# Altium schematic symbol library BaseLib.SchLib: 60 symbols
Pins are listed as number, name and electrical type; pins without a type are passive.

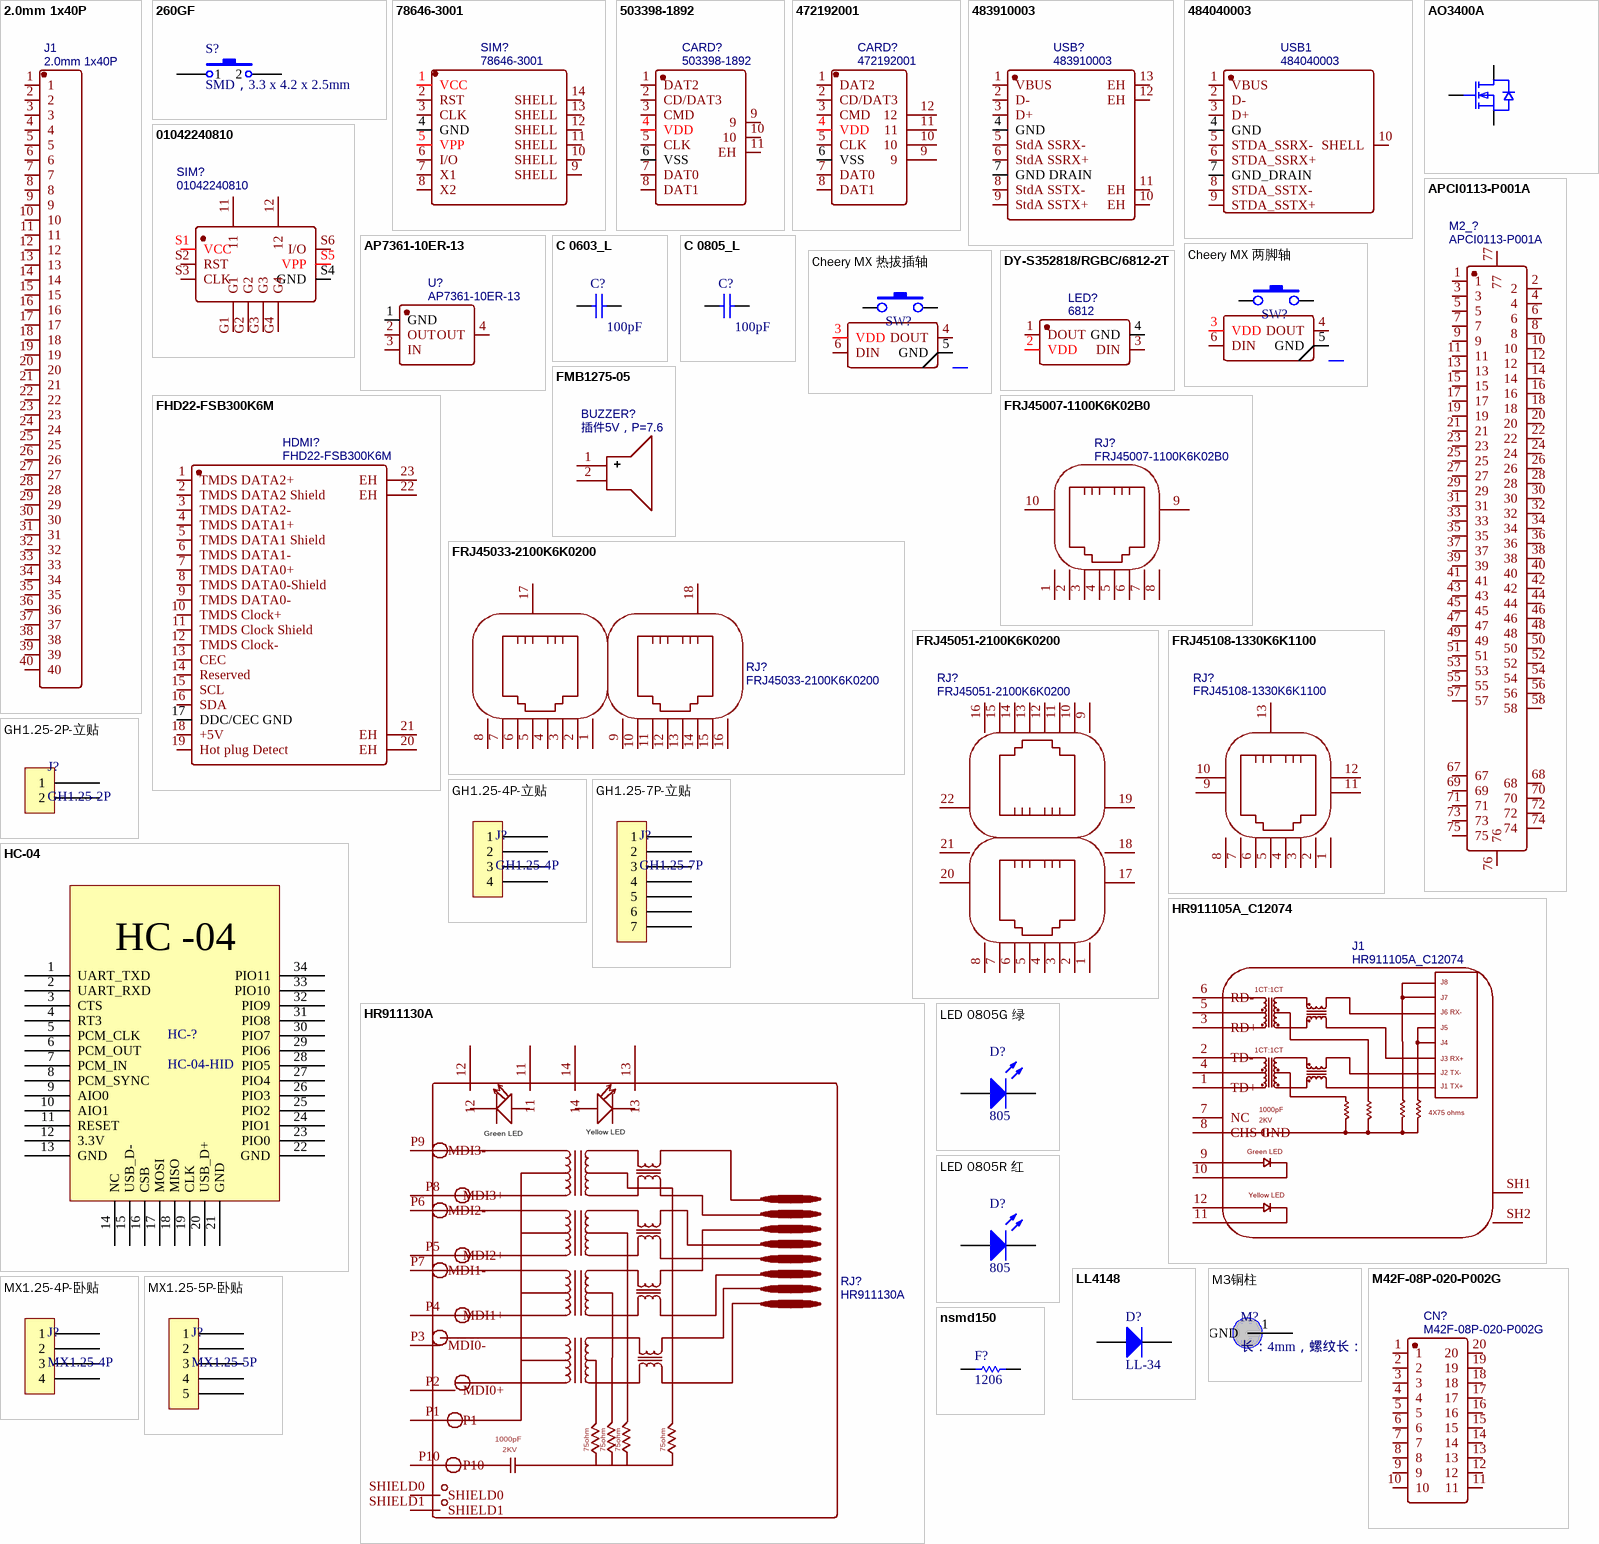
[diagram p0: symbols 2.0mm 1x40P to nsmd150]

## 2.0mm 1x40P
designator J1
排针（Pin Jack）; BOM_Manufacturer: BOOMELE; BOM_Manufacturer Part: 2.0mm 1x40P 单排直针; spicePre: X; BOM_Supplier: LCSC; BOM_Supplier Part: C3411; BOM_JLCPCB Part Class: Extended Part; spiceSymbolName: 2.0mm 1x40P
footprint HDR-TH_40P-P2.00-V-M-1
pins: 1, 2, 3, 4, 5, 6, 7, 8, 9, 10, 11, 12, 13, 14, 15, 16, 17, 18, 19, 20, 21, 22, 23, 24, 25, 26, 27, 28, 29, 30, 31, 32, 33, 34, 35, 36, 37, 38, 39, 40

## 260GF
designator S?, comment SMD，3.3 x 4.2 x 2.5mm
轻触开关（Touch Switch）; Published: 24-Mar-1999; LatestRevisionDate: 17-Jul-2002; LatestRevisionNote: Re-released for DXP Platform.; PackageReference: SPST-2; Publisher: Altium Limited; PackageDescription: Switch; 2 Leads
footprint SMD-3.2*4.2
pins: 1, 2

## 78646-3001
designator SIM?
拔插式MicroSIM卡卡座（MicroSIM Jack）; BOM_Manufacturer: MOLEX; Contributor: LCSC; BOM_Supplier: LCSC; BOM_Supplier Part: C194938; BOM_Manufacturer Part: 78646-3001; BOM_JLCPCB Part Class: Extended Part; spicePre: C; spiceSymbolName: 78646-3001
footprint SD-SMD_78646-3001
pins: 1 VCC, 2 RST, 3 CLK, 4 GND, 5 VPP, 6 I/O, 7 X1, 8 X2, 9 SHELL, 10 SHELL, 11 SHELL, 12 SHELL, 13 SHELL, 14 SHELL

## 503398-1892
designator CARD?
弹出式SD卡插座（SD Jack）; BOM_Manufacturer: MOLEX; Contributor: LCSC; BOM_Supplier: LCSC; BOM_Supplier Part: C428492; BOM_Manufacturer Part: 503398-1892; BOM_JLCPCB Part Class: Extended Part; spicePre: C; spiceSymbolName: 503398-1892
footprint TF-SMD_503398-1892
pins: 1 DAT2, 2 CD/DAT3, 3 CMD, 4 VDD, 5 CLK, 6 VSS, 7 DAT0, 8 DAT1, 9, 10, 11 EH

## 472192001
designator CARD?
翻盖式SD卡插座（SD Jack）; BOM_Manufacturer: MOLEX; Contributor: LCSC; BOM_Supplier: LCSC; BOM_Supplier Part: C164170; BOM_Manufacturer Part: 472192001; BOM_JLCPCB Part Class: Extended Part; spicePre: C; spiceSymbolName: 472192001
footprint TF-SMD_472192001
pins: 1 DAT2, 2 CD/DAT3, 3 CMD, 4 VDD, 5 CLK, 6 VSS, 7 DAT0, 8 DAT1, 9, 10, 11, 12

## 483910003
designator USB?
卧式通用通信总线接口（USB），Type-A; BOM_Manufacturer: MOLEX; Contributor: LCSC; BOM_Supplier: LCSC; BOM_Supplier Part: C127375; BOM_Manufacturer Part: 483910003; BOM_JLCPCB Part Class: Extended Part; spicePre: U; spiceSymbolName: 483910003
footprint USB-A-TH_4839100031
pins: 1 VBUS, 2 D-, 3 D+, 4 GND, 5 StdA SSRX-, 6 StdA SSRX+, 7 GND DRAIN, 8 StdA SSTX-, 9 StdA SSTX+, 10 EH, 11 EH, 12 EH, 13 EH

## 484040003
designator USB1
立式通用通信总线接口（USB），Type-A; BOM_Manufacturer: MOLEX; Contributor: LCSC; BOM_Supplier: LCSC; BOM_Supplier Part: C127377; BOM_Manufacturer Part: 484040003; BOM_JLCPCB Part Class: Extended Part; spicePre: U; spiceSymbolName: 484040003
footprint USB-TH_484040003
pins: 1 VBUS, 2 D-, 3 D+, 4 GND, 5 STDA_SSRX-, 6 STDA_SSRX+, 7 GND_DRAIN, 8 STDA_SSTX-, 9 STDA_SSTX+, 10 SHELL

## 01042240810
designator SIM?
拔插式NanoSIM卡卡座（NanoSIM Jack）; BOM_Manufacturer: MOLEX; Contributor: LCSC; BOM_Supplier: LCSC; BOM_Manufacturer Part: 01042240810; BOM_Supplier Part: C127338; BOM_JLCPCB Part Class: Extended Part; spicePre: C; spiceSymbolName: 01042240810
footprint SD-SMD_SD-104244-001
pins: 11, 12, G1, G2, G3, G4, S1 VCC, S2 RST, S3 CLK, S4 GND, S5 VPP, S6 I/O

## AO3400A
designator Q?, comment SOT-23 30V 5.2A
场效应管（MOSFET）; Manufacturer: Nexperia(安世); Symbol: 2N7002,215; Add into BOM: yes; Type: N沟道; Drain Source Voltage (Vdss): 60V; Continuous Drain Current (Id): 300mA; Power Dissipation (Pd): 830mW; Drain Source On Resistance (RDS(on)@Vgs,Id): 5Ω@10V,500mA; Gate Threshold Voltage (Vgs(th)@Id): 2.5V@250A; Device: 2N7002,215; LCSC Part Name: N沟道 60V 300mA; Supplier Part: C65189; Manufacturer Part: 2N7002,215; Supplier Footprint: SOT-23(SOT-23-3); JLCPCB Part Class: Extended Part; Datasheet: https://atta.szlcsc.com/upload/public/pdf/source/20170103/1483439882638.pdf; Supplier: LCSC; Convert to PCB: yes
footprint AO3400A (SOT-23_L2.9-W1.3-P1.90-LS2.4-BR)
pins: 1 G, 2 S, 3 D

## AP7361-10ER-13
designator U?
线性稳压器（LDO）; BOM_Manufacturer: Diodes Incorporated; Contributor: LCSC; BOM_Supplier: LCSC; BOM_Supplier Part: C460389; BOM_Manufacturer Part: AP7361-10ER-13; BOM_JLCPCB Part Class: Extended Part; spicePre: U; spiceSymbolName: AP7361-10ER-13
footprint SOT-223_L6.5-W3.5-P2.30-LS7.0-BR
pins: 1 GND, 2 OUT, 3 IN, 4 OUT

## APCI0113-P001A
designator M2_?
M.2通用接口（M.2 Jack）; BOM_Manufacturer: LOTES; Contributor: LCSC; BOM_Supplier: LCSC; BOM_Supplier Part: C841669; BOM_Manufacturer Part: APCI0113-P001A; BOM_JLCPCB Part Class: Extended Part; spicePre: C; spiceSymbolName: APCI0113-P001A
footprint CONN-SMD_APCI0113-P001A
pins: 1, 2, 3, 4, 5, 6, 7, 8, 9, 10, 11, 12, 13, 14, 15, 16, 17, 18, 19, 20, 21, 22, 23, 24, 25, 26, 27, 28, 29, 30, 31, 32, 33, 34, 35, 36, 37, 38, 39, 40, 41, 42, 43, 44, 45, 46, 47, 48, 49, 50, 51, 52, 53, 54, 55, 56, 57, 58, 67, 68, 69, 70, 71, 72, 73, 74, 75, 76, 77

## C 0603_L
designator C?  value 100pF
贴片电容器（Capacitor）; Published: 8-Jun-2000; LatestRevisionDate: 17-Jul-2002; LatestRevisionNote: Re-released for DXP Platform.; PackageReference: RAD-0.3; Publisher: Altium Limited; PackageDescription: Radial Cap, Thru-Hole; 2 Leads; 0.3 in Pin Spacing
footprint C 0603_L (无极性贴片电容                                       淘宝ID:黄晶宝石)
pins: 1, 2

## C 0805_L
designator C?  value 100pF
贴片电容器（Capacitor）; Published: 8-Jun-2000; LatestRevisionDate: 17-Jul-2002; LatestRevisionNote: Re-released for DXP Platform.; PackageReference: RAD-0.3; Publisher: Altium Limited; PackageDescription: Radial Cap, Thru-Hole; 2 Leads; 0.3 in Pin Spacing
footprint C 0805_L (无极性贴片电容                                        淘宝ID:黄晶宝石)
pins: 1, 2

## Cheery MX 两脚轴
designator SW?
机械键盘轴（Cheery MX）
footprint MX_SW-1 (with Fixation pins  1-Pole w/Diode)
pins: 1, 2, 3 VDD, 4 DOUT, 5 GND, 6 DIN

## Cheery MX 热拔插轴
designator SW?
机械键盘轴（Cheery MX）
footprint MX_SW-HOTPLUG (with Fixation pins  1-Pole w/Diode)
pins: 1, 2, 3 VDD, 4 DOUT, 5 GND, 6 DIN

## DY-S352818/RGBC/6812-2T
designator LED?, comment 6812
贴片发光二极管（LED）; BOM_Manufacturer: TONYU; BOM_Manufacturer Part: DY-S352818/RGBC/6812-2T; Contributor: LCSC; BOM_Supplier: LCSC; BOM_Supplier Part: C524051; BOM_JLCPCB Part Class: Extended Part; spicePre: L; spiceSymbolName: DY-S352818/RGBC/6812-2T
footprint LED3528
pins: 1 DOUT, 2 VDD, 3 DIN, 4 GND

## FHD22-FSB300K6M
designator HDMI?
数字高清显示接口（HDMI）; BOM_Manufacturer: TXGA(特思嘉); Contributor: LCSC; BOM_Supplier: LCSC; BOM_Supplier Part: C2833984; BOM_Manufacturer Part: FHD22-FSB300K6M; spicePre: C; spiceSymbolName: FHD22-FSB300K6M
footprint HDMI-SMD_FHD22-FSB300K6M
pins: 1 TMDS DATA2+, 2 TMDS DATA2 Shield, 3 TMDS DATA2-, 4 TMDS DATA1+, 5 TMDS DATA1 Shield, 6 TMDS DATA1-, 7 TMDS DATA0+, 8 TMDS DATA0-Shield, 9 TMDS DATA0-, 10 TMDS Clock+, 11 TMDS Clock Shield, 12 TMDS Clock-, 13 CEC, 14 Reserved, 15 SCL, 16 SDA, 17 DDC/CEC GND, 18 +5V, 19 Hot plug Detect, 20 EH, 21 EH, 22 EH, 23 EH

## FMB1275-05
designator BUZZER?, comment 插件5V，P=7.6
蜂鸣器（Buzzer）; BOM_Manufacturer: FUET; BOM_Manufacturer Part: FMB1275-05; Contributor: LCSC; Frequency: 2300Hz; BOM_Supplier: LCSC; BOM_Supplier Part: C482357; BOM_JLCPCB Part Class: Extended Part; spicePre: B; spiceSymbolName: FMB1275-05
footprint Speaker
pins: 1 +, 2 -

## FRJ45007-1100K6K02B0
designator RJ?
单插以太网接口（RJ45）; BOM_Manufacturer: TXGA(特思嘉); Contributor: LCSC; BOM_Supplier: LCSC; BOM_Supplier Part: C2834418; BOM_Manufacturer Part: FRJ45007-1100K6K02B0; BOM_JLCPCB Part Class: Extended Part; spicePre: R; spiceSymbolName: FRJ45007-1100K6K02B0
footprint RJ45-TH_FRJ45007-1100K6K02B0
pins: 1, 2, 3, 4, 5, 6, 7, 8, 9 SHELL, 10 SHELL

## FRJ45033-2100K6K0200
designator RJ?
卧式双插以太网接口（RJ45）; BOM_Manufacturer: TXGA(特思嘉); Contributor: LCSC; BOM_Supplier: LCSC; BOM_Supplier Part: C2834380; BOM_Manufacturer Part: FRJ45033-2100K6K0200; BOM_JLCPCB Part Class: Extended Part; spicePre: R; spiceSymbolName: FRJ45033-2100K6K0200
footprint RJ45-TH_FRJ45033-2100K6K0200
pins: 1, 2, 3, 4, 5, 6, 7, 8, 9, 10, 11, 12, 13, 14, 15, 16, 17 SHELL, 18 SHELL

## FRJ45051-2100K6K0200
designator RJ?
立式双插以太网接口（RJ45）; BOM_Manufacturer: TXGA(特思嘉); Contributor: LCSC; BOM_Supplier: LCSC; BOM_Supplier Part: C2834296; BOM_Manufacturer Part: FRJ45051-2100K6K0200; spicePre: R; spiceSymbolName: FRJ45051-2100K6K0200
footprint RJ45-TH_FRJ45051-2100K6K0200
pins: 1, 2, 3, 4, 5, 6, 7, 8, 9, 10, 11, 12, 13, 14, 15, 16, 17 SHELL, 18 SHELL, 19 SHELL, 20 SHELL, 21 SHELL, 22 SHELL

## FRJ45108-1330K6K1100
designator RJ?
单插带灯以太网接口（RJ45）; BOM_Manufacturer: TXGA(特思嘉); Contributor: LCSC; BOM_Supplier: LCSC; BOM_Supplier Part: C2833816; BOM_Manufacturer Part: FRJ45108-1330K6K1100; spicePre: R; spiceSymbolName: FRJ45108-1330K6K1100
footprint RJ45-TH_FRJ45108-1330K6K1100
pins: 1, 2, 3, 4, 5, 6, 7, 8, 9 LED-L+, 10 LED-L-, 11 LED-R+, 12 LED-R-, 13 SHELL

## GH1.25-2P-立贴
designator J?, comment GH1.25-2P
插座（Jack）
footprint GH1.25-立贴-2P
pins: 1, 2

## GH1.25-4P-立贴
designator J?, comment GH1.25-4P
插座（Jack）
footprint GH1.25-立贴-4P
pins: 1, 2, 3, 4

## GH1.25-7P-立贴
designator J?, comment GH1.25-7P
插座（Jack）
footprint GH1.25-立贴-7P
pins: 1, 2, 3, 4, 5, 6, 7

## HC-04
designator HC-?, comment HC-04-HID
蓝牙HC-04最小主板（Bluetooth）
footprint HC-04 (串口蓝牙模块)
pins: 1 UART_TXD, 2 UART_RXD, 3 CTS, 4 RT3, 5 PCM_CLK, 6 PCM_OUT, 7 PCM_IN, 8 PCM_SYNC, 9 AIO0, 10 AIO1, 11 RESET, 12 3.3V, 13 GND, 14 NC, 15 USB_D-, 16 CSB, 17 MOSI, 18 MISO, 19 CLK, 20 USB_D+, 21 GND, 22 GND, 23 PIO0, 24 PIO1, 25 PIO2, 26 PIO3, 27 PIO4, 28 PIO5, 29 PIO6, 30 PIO7, 31 PIO8, 32 PIO9, 33 PIO10, 34 PIO11
text: HC -04

## HR911105A_C12074
designator J1
单插带灯以太网接口（RJ45）; BOM_Manufacturer: HANRUN; BOM_Supplier: LCSC; BOM_Manufacturer Part: HR911105A; BOM_Supplier Part: C12074; BOM_JLCPCB Part Class: Extended Part; spicePre: J; spiceSymbolName: HR911105A_C12074
footprint RJ45-TH_HR911105A
pins: 1 TD+, 2 TD-, 3 RD+, 4, 5, 6 RD-, 7 NC, 8 CHS GND, 9, 10, 11, 12, SH1, SH2
text: J8; 1CT:1CT; J7; J6 RX-; J5; J4; J3 RX+; J2 TX-; J1 TX+; 1000pF; 4X75 ohms; 2KV; Green LED; Yellow LED

## HR911130A
designator RJ?
单插带灯以太网接口（RJ45）; BOM_Manufacturer: HANRUN; BOM_Supplier: LCSC; BOM_Manufacturer Part: HR911130A; BOM_Supplier Part: C54408; BOM_JLCPCB Part Class: Extended Part; spicePre: R; spiceSymbolName: HR911130A
footprint RJ45-TH_HR911130A
pins: 11, 12, 13, 14, P1, P2 MDI0+, P3 MDI0-, P4 MDI1+, P5 MDI2+, P6 MDI2-, P7 MDI1-, P8 MDI3+, P9 MDI3-, P10, SHIELD0, SHIELD1
text: Yellow LED; Green LED; J8; J7; J6 RX-; J5; J4; J3 RX+; J2 TX-; J1 TX+; 1000pF; 75ohm; 2KV

## LED 0805G 绿
designator D?, comment 805
贴片发光二极管（LED）; Published: 8-Jun-2000; LatestRevisionDate: 08-Jul-2005; LatestRevisionNote: Mech Layer 1 removed.; PackageReference: LED-0; Publisher: Altium Limited; PackageDescription: LED; 2 Leads
footprint LED 0805G (绿色0805LED                              淘宝ID:黄晶宝石)
pins: 1 A, 2 K

## LED 0805R 红
designator D?, comment 805
贴片发光二极管（LED）; Published: 8-Jun-2000; LatestRevisionDate: 08-Jul-2005; LatestRevisionNote: Mech Layer 1 removed.; PackageReference: LED-0; Publisher: Altium Limited; PackageDescription: LED; 2 Leads
footprint LED 0805R (红色0805LED                                       淘宝ID:黄晶宝石)
pins: 1 A, 2 K

## LL4148
designator D?, comment LL-34
开关二极管（Switching diode）; Published: 8-Jun-2000; LatestRevisionDate: 17-Jul-2002; LatestRevisionNote: Re-released for DXP Platform.; PackageVersion: Sep-1996; PackageReference: SMC; Publisher: Altium Limited; PackageDescription: DO-214-AB/SMC; 2 C-Bend Leads; Body 7.9 x 5.9 mm, inc. leads (LxW); Code_JEDEC: DO-214-AB
footprint LL-34_L3.7-W1.6-RD
pins: 1 A, 2 K

## M3铜柱
designator M?, comment 长：4mm，螺纹长：6mm
M3铜柱，长：4mm，螺纹长：6mm
footprint M3x4+6_L (M3铜柱，长：4mm，螺纹长：6mm)
pins: 1 GND

## M42F-08P-020-P002G
designator CN?
SFP+万兆光模块口（SFP+ Jack）; BOM_Manufacturer: UMAX; Contributor: LCSC; BOM_Supplier: LCSC; BOM_Supplier Part: C404107; BOM_Manufacturer Part: M42F-08P-020-P002G; BOM_JLCPCB Part Class: Extended Part; spicePre: C; spiceSymbolName: M42F-08P-020-P002G
footprint CONN-SMD_20P-P0.80-H_M42F-08P-020-P002G
pins: 1, 2, 3, 4, 5, 6, 7, 8, 9, 10, 11, 12, 13, 14, 15, 16, 17, 18, 19, 20

## MX1.25-4P-卧贴
designator J?, comment MX1.25-4P
插座（Jack）
footprint MX 1.25-WS-4P (长：10.15mm，宽：4.2mm，高：3.4mm)
pins: 1, 2, 3, 4

## MX1.25-5P-卧贴
designator J?, comment MX1.25-5P
插座（Jack）
footprint MX 1.25-WS-5P (长：11.4mm，宽：4.2mm，高：3.4mm)
pins: 1, 2, 3, 4, 5

## nsmd150
designator F?, comment 1206
自恢复保险丝（Fuse）; Published: 8-Jun-2000; LatestRevisionDate: 17-Jul-2002; LatestRevisionNote: Re-released for DXP Platform.; PackageReference: AXIAL-0.3; Publisher: Altium Limited; PackageDescription: Axial Device, Thru-Hole; 2 Leads; 0.3 in Pin Spacing
footprint FU 1206 (贴片保险丝)
pins: 1, 2

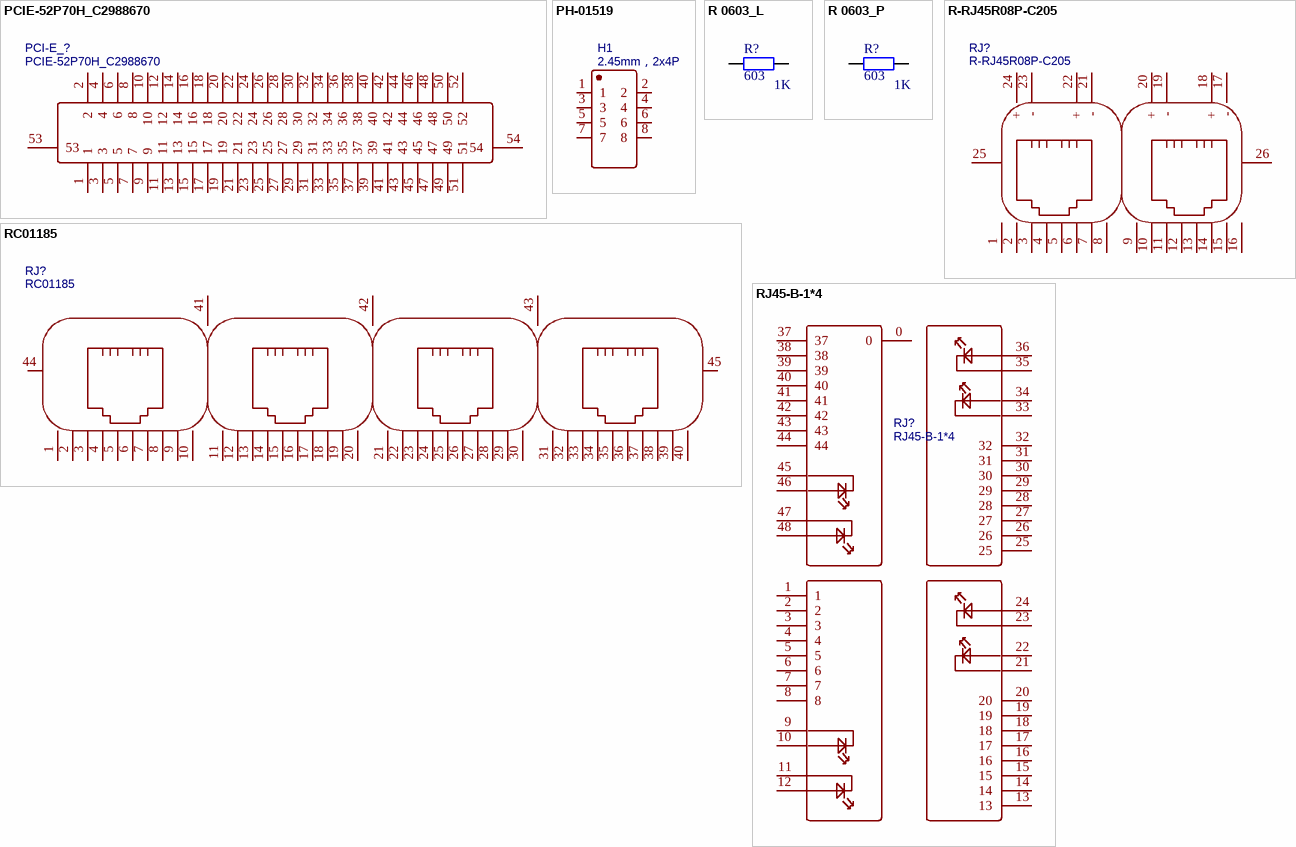
[diagram p1: symbols PCIE-52P70H_C2988670 to RJ45-B-1*4]

## PCIE-52P70H_C2988670
designator PCI-E_?
PCI-E通用接口（PCI-E Jack）; BOM_Manufacturer: SOFNG(硕方); Contributor: LCSC; BOM_Supplier: LCSC; BOM_Supplier Part: C2988670; BOM_Manufacturer Part: PCIE-52P70H; link: https://atta.szlcsc.comnull; spicePre: C; spiceSymbolName: PCIE-52P70H_C2988670
footprint PCIE-SMD_52P-P0.80_PCIE-52PXXH
pins: 1, 2, 3, 4, 5, 6, 7, 8, 9, 10, 11, 12, 13, 14, 15, 16, 17, 18, 19, 20, 21, 22, 23, 24, 25, 26, 27, 28, 29, 30, 31, 32, 33, 34, 35, 36, 37, 38, 39, 40, 41, 42, 43, 44, 45, 46, 47, 48, 49, 50, 51, 52, 53, 54

## PH-01519
designator H1, comment 2.45mm，2x4P
排针（Pin Jack）; BOM_Manufacturer: Liansheng(连盛); BOM_Manufacturer Part: PH-01519; Contributor: LCSC; BOM_Supplier: LCSC; BOM_Supplier Part: C2827500; BOM_JLCPCB Part Class: Extended Part; spicePre: H; spiceSymbolName: PH-01519
footprint HDR-TH_8P-P2.00-V-M-R2-C4-S2.00-2
pins: 1, 2, 3, 4, 5, 6, 7, 8

## R 0603_L
designator R?, comment 603  value 1K
贴片电阻（Resistor）; Published: 8-Jun-2000; LatestRevisionDate: 17-Jul-2002; LatestRevisionNote: Re-released for DXP Platform.; PackageReference: AXIAL-0.4; Publisher: Altium Limited; PackageDescription: Axial Device, Thru-Hole; 2 Leads; 0.4 in Pin Spacing
footprint R 0603_L (1/10W贴片电阻                 淘宝ID:黄晶宝石)
pins: 1, 2

## R 0603_P
designator R?, comment 603  value 1K
贴片电阻（Resistor）; Published: 8-Jun-2000; LatestRevisionDate: 17-Jul-2002; LatestRevisionNote: Re-released for DXP Platform.; PackageReference: AXIAL-0.4; Publisher: Altium Limited; PackageDescription: Axial Device, Thru-Hole; 2 Leads; 0.4 in Pin Spacing
footprint 0603P
pins: 1, 2

## R-RJ45R08P-C205
designator RJ?
卧式带灯双插以太网接口（RJ45）; BOM_Manufacturer: Ckmtw(灿科盟); Contributor: LCSC; BOM_Supplier: LCSC; BOM_Supplier Part: C2902697; BOM_Manufacturer Part: R-RJ45R08P-C205; BOM_JLCPCB Part Class: Extended Part; spicePre: R; spiceSymbolName: R-RJ45R08P-C205
footprint RJ45-TH_CKMTW_R-RJ45R08P-C205
footprint RJ45-TH_CKMTW_R-RJ45R08P-C205
pins: 1, 2, 3, 4, 5, 6, 7, 8, 9, 10, 11, 12, 13, 14, 15, 16, 17 -, 18 +, 19 -, 20 +, 21 -, 22 +, 23 -, 24 +, 25, 26

## RC01185
designator RJ?
卧式四插以太网接口（RJ45）; BOM_Manufacturer: RCH(瑞川); Contributor: LCSC; BOM_Supplier: LCSC; BOM_Supplier Part: C708618; BOM_Manufacturer Part: RC01185; BOM_JLCPCB Part Class: Extended Part; spicePre: R; spiceSymbolName: RC01185
footprint RJ45-TH_RCH-5621-14
pins: 1, 2, 3, 4, 5, 6, 7, 8, 9, 10, 11, 12, 13, 14, 15, 16, 17, 18, 19, 20, 21, 22, 23, 24, 25, 26, 27, 28, 29, 30, 31, 32, 33, 34, 35, 36, 37, 38, 39, 40, 41 SHELL, 42 SHELL, 43 SHELL, 44 SHELL, 45 SHELL

## RJ45-B-1*4
designator RJ?
卧式带灯四插以太网接口（RJ45）; BOM_Manufacturer: BOOMELE; subpart_no: 4; BOM_Supplier Part: C138390; BOM_Supplier: LCSC; BOM_Manufacturer Part: RJ45-B-1*4; BOM_JLCPCB Part Class: Extended Part; spicePre: R; spiceSymbolName: RJ45-B-1*4
footprint RJ45-TH_B-1-4
pins: 0, 1, 2, 3, 4, 5, 6, 7, 8, 9, 10, 11, 12, 13, 14, 15, 16, 17, 18, 19, 20, 21, 22, 23, 24, 25, 26, 27, 28, 29, 30, 31, 32, 33, 34, 35, 36, 37, 38, 39, 40, 41, 42, 43, 44, 45, 46, 47, 48

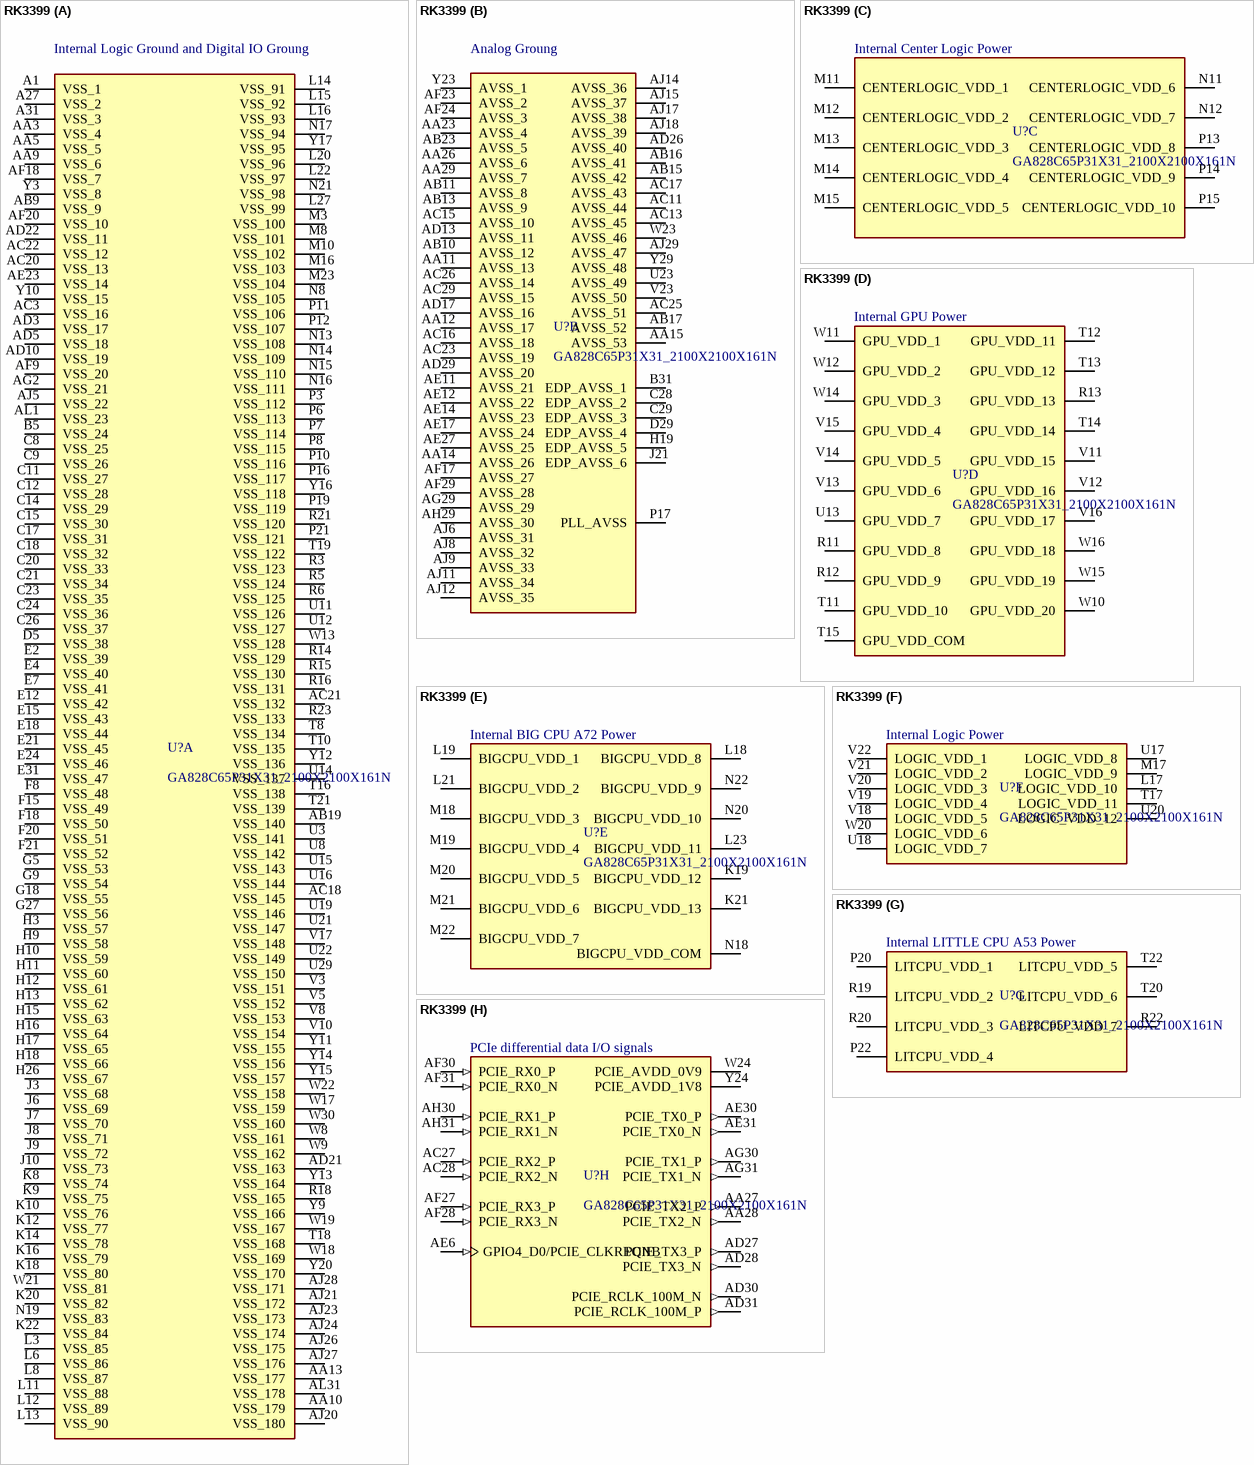
[diagram p2: symbol RK3399]

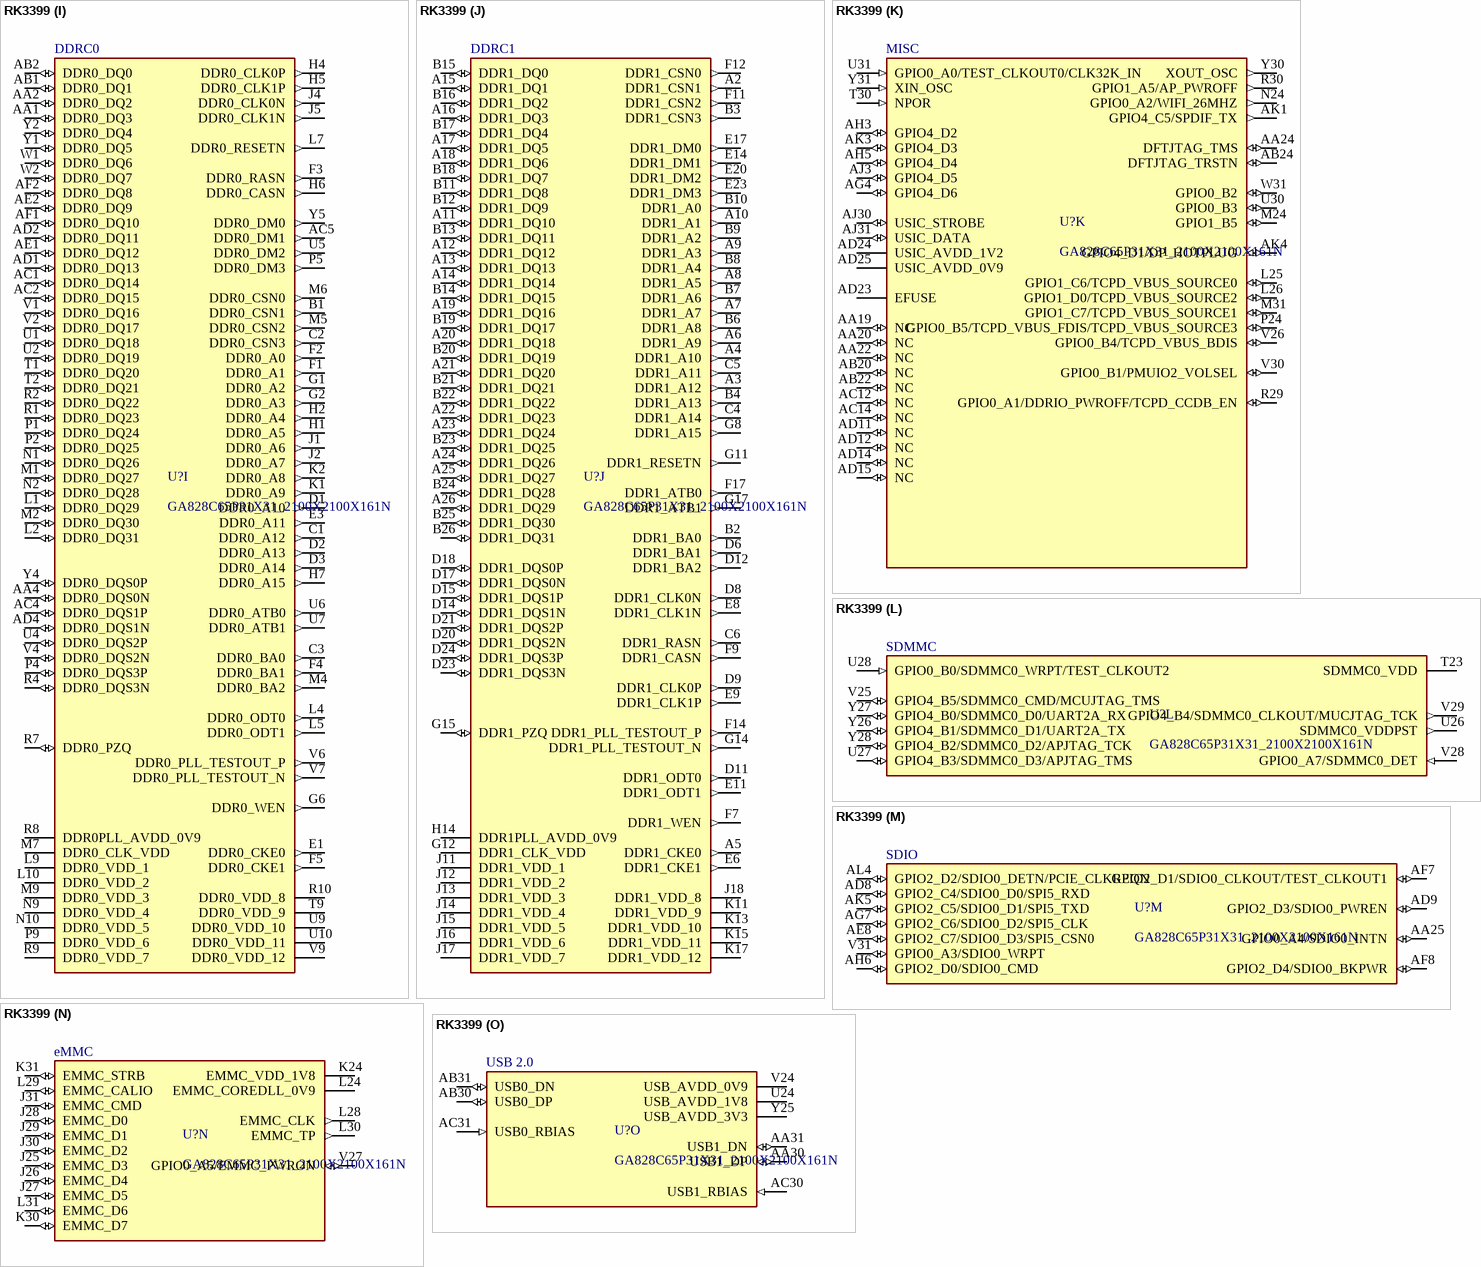
[diagram p3: symbol RK3399]

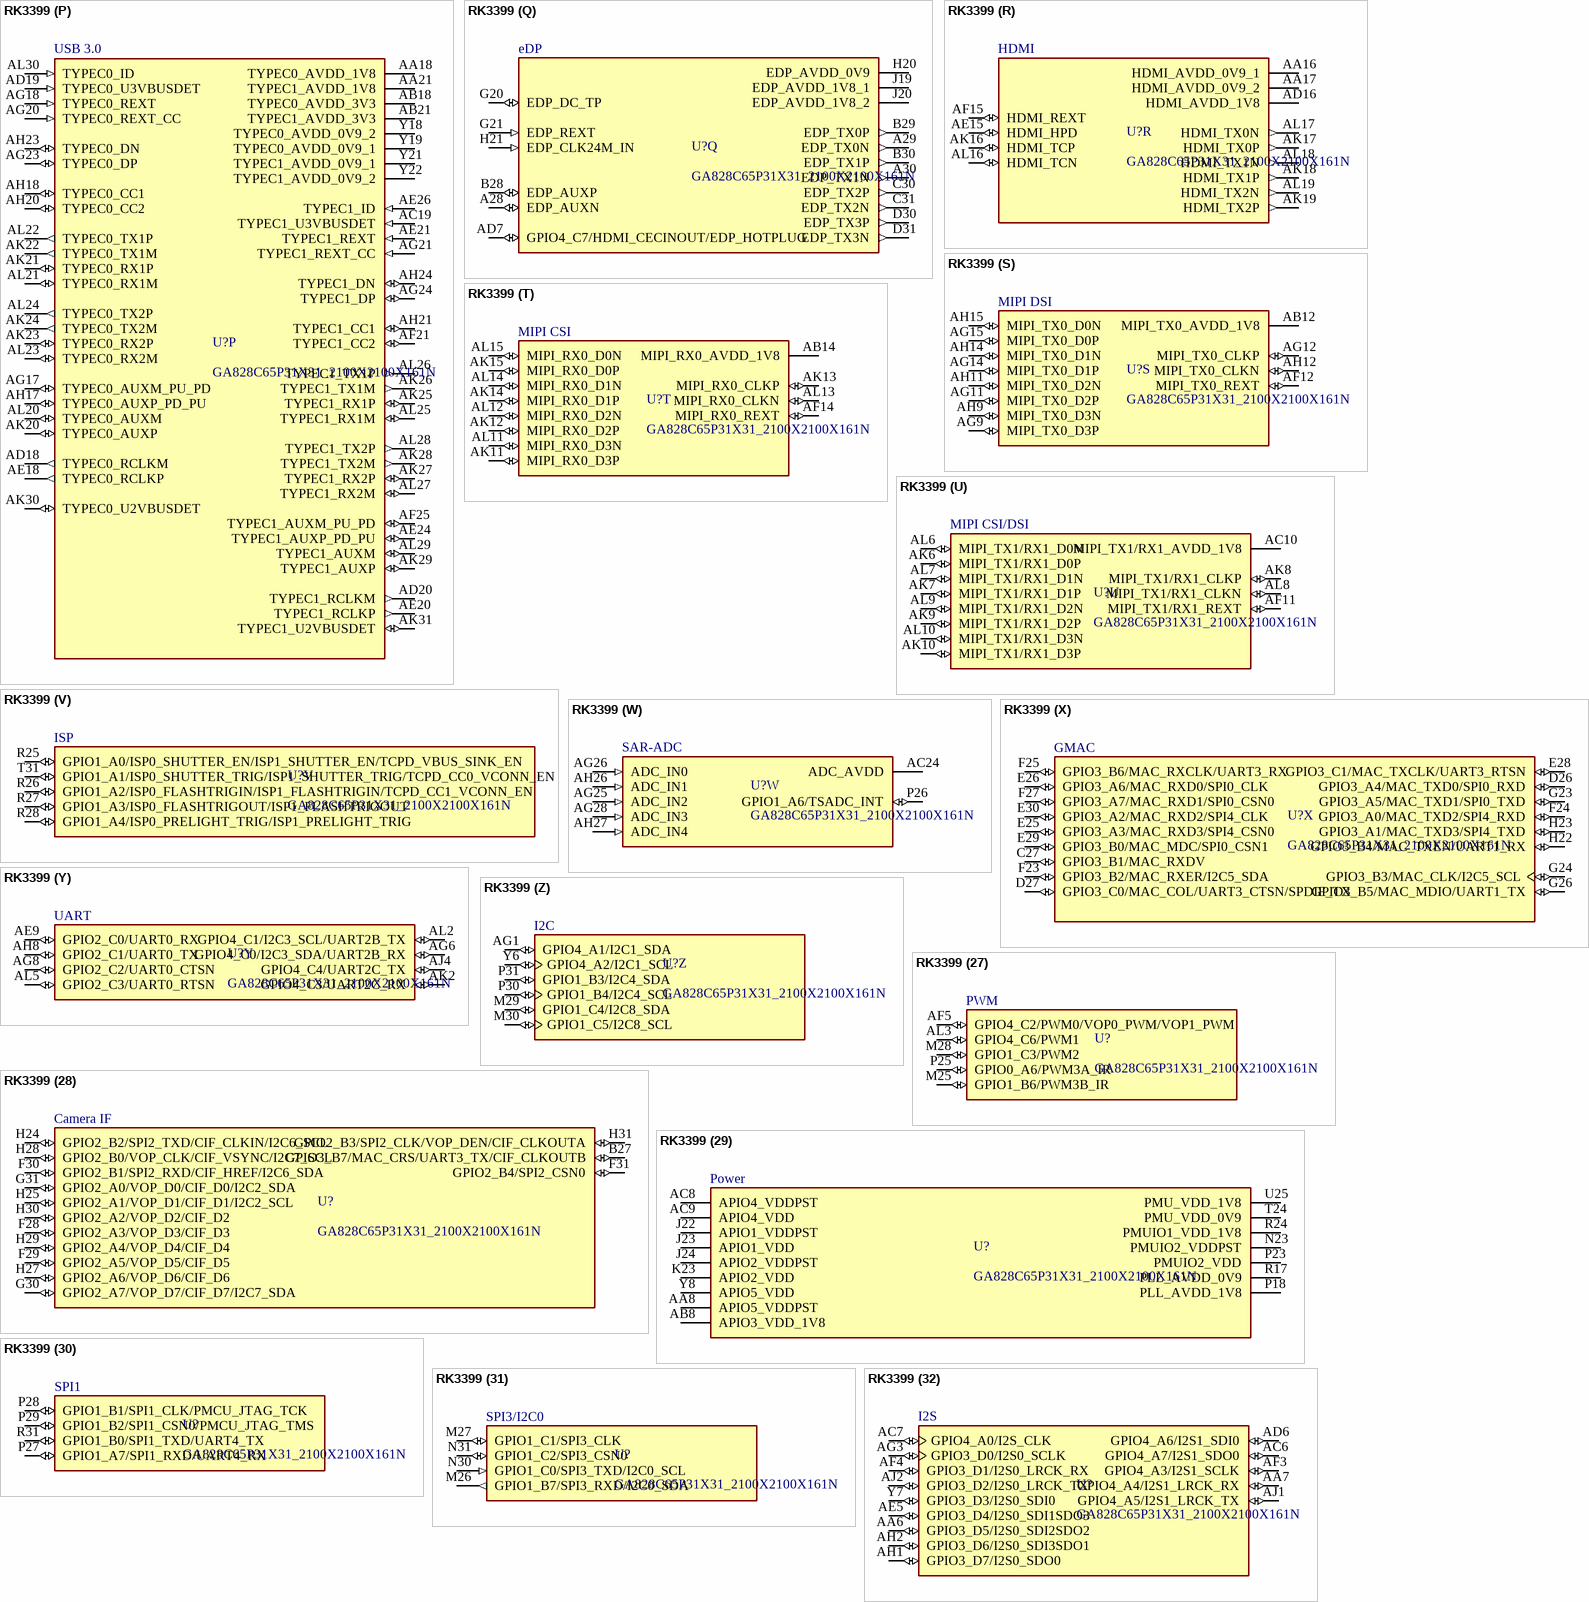
[diagram p4: symbol RK3399]

## RK3399
designator U?, comment GA828C65P31X31_2100X2100X161N
芯片系统（SOC），RK3399 ROCK Pi 4 Model A 2GB - ARMÂ® CortexÂ®-A53, CortexÂ®-A72 MPU Embedded Evaluation Board; MP: RK3399; MF: Rockchip; SnapEDA_Link: https://www.snapeda.com/parts/RK3399/Fuzhou%20Rockchip%20Electronics%20Co/view-part/1600402/?ref=snap; Availability: Unavailable; Value: *; Price: None; Package: Seeed Technology
footprint BGA828C65P31X31_2100X2100X161N
part A pins: A1 VSS_1 (power), A27 VSS_2 (power), A31 VSS_3 (power), AA3 VSS_4 (power), AA5 VSS_5 (power), AA9 VSS_6 (power), AA10 VSS_179 (power), AA13 VSS_177 (power), AB9 VSS_9 (power), AB19 VSS_140 (power), AC3 VSS_16 (power), AC18 VSS_145 (power), AC20 VSS_13 (power), AC21 VSS_132 (power), AC22 VSS_12 (power), AD3 VSS_17 (power), AD5 VSS_18 (power), AD10 VSS_19 (power), AD21 VSS_163 (power), AD22 VSS_11 (power), AE23 VSS_14 (power), AF9 VSS_20 (power), AF18 VSS_7 (power), AF20 VSS_10 (power), AG2 VSS_21 (power), AJ5 VSS_22 (power), AJ20 VSS_180 (power), AJ21 VSS_172 (power), AJ23 VSS_173 (power), AJ24 VSS_174 (power), AJ26 VSS_175 (power), AJ27 VSS_176 (power), AJ28 VSS_171 (power), AL1 VSS_23 (power), AL31 VSS_178 (power), B5 VSS_24 (power), C8 VSS_25 (power), C9 VSS_26 (power), C11 VSS_27 (power), C12 VSS_28 (power), C14 VSS_29 (power), C15 VSS_30 (power), C17 VSS_31 (power), C18 VSS_32 (power), C20 VSS_33 (power), C21 VSS_34 (power), C23 VSS_35 (power), C24 VSS_36 (power), C26 VSS_37 (power), D5 VSS_38 (power), E2 VSS_39 (power), E4 VSS_40 (power), E7 VSS_41 (power), E12 VSS_42 (power), E15 VSS_43 (power), E18 VSS_44 (power), E21 VSS_45 (power), E24 VSS_46 (power), E31 VSS_47 (power), F8 VSS_48 (power), F15 VSS_49 (power), F18 VSS_50 (power), F20 VSS_51 (power), F21 VSS_52 (power), G5 VSS_53 (power), G9 VSS_54 (power), G18 VSS_55 (power), G27 VSS_56 (power), H3 VSS_57 (power), H9 VSS_58 (power), H10 VSS_59 (power), H11 VSS_60 (power), H12 VSS_61 (power), H13 VSS_62 (power), H15 VSS_63 (power), H16 VSS_64 (power), H17 VSS_65 (power), H18 VSS_66 (power), H26 VSS_67 (power), J3 VSS_68 (power), J6 VSS_69 (power), J7 VSS_70 (power), J8 VSS_71 (power), J9 VSS_72 (power), J10 VSS_73 (power), K8 VSS_74 (power), K9 VSS_75 (power), K10 VSS_76 (power), K12 VSS_77 (power), K14 VSS_78 (power), K16 VSS_79 (power), K18 VSS_80 (power), K20 VSS_82 (power), K22 VSS_84 (power), L3 VSS_85 (power), L6 VSS_86 (power), L8 VSS_87 (power), L11 VSS_88 (power), L12 VSS_89 (power), L13 VSS_90 (power), L14 VSS_91 (power), L15 VSS_92 (power), L16 VSS_93 (power), L20 VSS_96 (power), L22 VSS_97 (power), L27 VSS_99 (power), M3 VSS_100 (power), M8 VSS_101 (power), M10 VSS_102 (power), M16 VSS_103 (power), M23 VSS_104 (power), N8 VSS_105 (power), N13 VSS_108 (power), N14 VSS_109 (power), N15 VSS_110 (power), N16 VSS_111 (power), N17 VSS_94 (power), N19 VSS_83 (power), N21 VSS_98 (power), P3 VSS_112 (power), P6 VSS_113 (power), P7 VSS_114 (power), P8 VSS_115 (power), P10 VSS_116 (power), P11 VSS_106 (power), P12 VSS_107 (power), P16 VSS_117 (power), P19 VSS_119 (power), P21 VSS_121 (power), R3 VSS_123 (power), R5 VSS_124 (power), R6 VSS_125 (power), R14 VSS_129 (power), R15 VSS_130 (power), R16 VSS_131 (power), R18 VSS_165 (power), R21 VSS_120 (power), R23 VSS_133 (power), T8 VSS_134 (power), T10 VSS_135 (power), T16 VSS_138 (power), T18 VSS_168 (power), T19 VSS_122 (power), T21 VSS_139 (power), U3 VSS_141 (power), U8 VSS_142 (power), U11 VSS_126 (power), U12 VSS_127 (power), U14 VSS_137 (power), U15 VSS_143 (power), U16 VSS_144 (power), U19 VSS_146 (power), U21 VSS_147 (power), U22 VSS_149 (power), U29 VSS_150 (power), V3 VSS_151 (power), V5 VSS_152 (power), V8 VSS_153 (power), V10 VSS_154 (power), V17 VSS_148 (power), W8 VSS_161 (power), W9 VSS_162 (power), W13 VSS_128 (power), W17 VSS_159 (power), W18 VSS_169 (power), W19 VSS_167 (power), W21 VSS_81 (power), W22 VSS_158 (power), W30 VSS_160 (power), Y3 VSS_8 (power), Y9 VSS_166 (power), Y10 VSS_15 (power), Y11 VSS_155 (power), Y12 VSS_136 (power), Y13 VSS_164 (power), Y14 VSS_156 (power), Y15 VSS_157 (power), Y16 VSS_118 (power), Y17 VSS_95 (power), Y20 VSS_170 (power)
part B pins: AA11 AVSS_13 (power), AA12 AVSS_17 (power), AA14 AVSS_26 (power), AA15 AVSS_53 (power), AA23 AVSS_4 (power), AA26 AVSS_6 (power), AA29 AVSS_7 (power), AB10 AVSS_12 (power), AB11 AVSS_8 (power), AB13 AVSS_9 (power), AB15 AVSS_42 (power), AB16 AVSS_41 (power), AB17 AVSS_52 (power), AB23 AVSS_5 (power), AC11 AVSS_44 (power), AC13 AVSS_45 (power), AC15 AVSS_10 (power), AC16 AVSS_18 (power), AC17 AVSS_43 (power), AC23 AVSS_19 (power), AC25 AVSS_51 (power), AC26 AVSS_14 (power), AC29 AVSS_15 (power), AD13 AVSS_11 (power), AD17 AVSS_16 (power), AD26 AVSS_40 (power), AD29 AVSS_20 (power), AE11 AVSS_21 (power), AE12 AVSS_22 (power), AE14 AVSS_23 (power), AE17 AVSS_24 (power), AE27 AVSS_25 (power), AF17 AVSS_27 (power), AF23 AVSS_2 (power), AF24 AVSS_3 (power), AF29 AVSS_28 (power), AG29 AVSS_29 (power), AH29 AVSS_30 (power), AJ6 AVSS_31 (power), AJ8 AVSS_32 (power), AJ9 AVSS_33 (power), AJ11 AVSS_34 (power), AJ12 AVSS_35 (power), AJ14 AVSS_36 (power), AJ15 AVSS_37 (power), AJ17 AVSS_38 (power), AJ18 AVSS_39 (power), AJ29 AVSS_47 (power), B31 EDP_AVSS_1 (power), C28 EDP_AVSS_2 (power), C29 EDP_AVSS_3 (power), D29 EDP_AVSS_4 (power), H19 EDP_AVSS_5 (power), J21 EDP_AVSS_6 (power), P17 PLL_AVSS (power), U23 AVSS_49 (power), V23 AVSS_50 (power), W23 AVSS_46 (power), Y23 AVSS_1 (power), Y29 AVSS_48 (power)
part C pins: M11 CENTERLOGIC_VDD_1 (power), M12 CENTERLOGIC_VDD_2 (power), M13 CENTERLOGIC_VDD_3 (power), M14 CENTERLOGIC_VDD_4 (power), M15 CENTERLOGIC_VDD_5 (power), N11 CENTERLOGIC_VDD_6 (power), N12 CENTERLOGIC_VDD_7 (power), P13 CENTERLOGIC_VDD_8 (power), P14 CENTERLOGIC_VDD_9 (power), P15 CENTERLOGIC_VDD_10 (power)
part D pins: R11 GPU_VDD_8 (power), R12 GPU_VDD_9 (power), R13 GPU_VDD_13 (power), T11 GPU_VDD_10 (power), T12 GPU_VDD_11 (power), T13 GPU_VDD_12 (power), T14 GPU_VDD_14 (power), T15 GPU_VDD_COM (power), U13 GPU_VDD_7 (power), V11 GPU_VDD_15 (power), V12 GPU_VDD_16 (power), V13 GPU_VDD_6 (power), V14 GPU_VDD_5 (power), V15 GPU_VDD_4 (power), V16 GPU_VDD_17 (power), W10 GPU_VDD_20 (power), W11 GPU_VDD_1 (power), W12 GPU_VDD_2 (power), W14 GPU_VDD_3 (power), W15 GPU_VDD_19 (power), W16 GPU_VDD_18 (power)
part E pins: K19 BIGCPU_VDD_12 (power), K21 BIGCPU_VDD_13 (power), L18 BIGCPU_VDD_8 (power), L19 BIGCPU_VDD_1 (power), L21 BIGCPU_VDD_2 (power), L23 BIGCPU_VDD_11 (power), M18 BIGCPU_VDD_3 (power), M19 BIGCPU_VDD_4 (power), M20 BIGCPU_VDD_5 (power), M21 BIGCPU_VDD_6 (power), M22 BIGCPU_VDD_7 (power), N18 BIGCPU_VDD_COM (power), N20 BIGCPU_VDD_10 (power), N22 BIGCPU_VDD_9 (power)
part F pins: L17 LOGIC_VDD_10 (power), M17 LOGIC_VDD_9 (power), T17 LOGIC_VDD_11 (power), U17 LOGIC_VDD_8 (power), U18 LOGIC_VDD_7 (power), U20 LOGIC_VDD_12 (power), V18 LOGIC_VDD_5 (power), V19 LOGIC_VDD_4 (power), V20 LOGIC_VDD_3 (power), V21 LOGIC_VDD_2 (power), V22 LOGIC_VDD_1 (power), W20 LOGIC_VDD_6 (power)
part G pins: P20 LITCPU_VDD_1 (power), P22 LITCPU_VDD_4 (power), R19 LITCPU_VDD_2 (power), R20 LITCPU_VDD_3 (power), R22 LITCPU_VDD_7 (power), T20 LITCPU_VDD_6 (power), T22 LITCPU_VDD_5 (power)
part H pins: AA27 PCIE_TX2_P (out), AA28 PCIE_TX2_N (out), AC27 PCIE_RX2_P (in), AC28 PCIE_RX2_N (in), AD27 PCIE_TX3_P (out), AD28 PCIE_TX3_N (out), AD30 PCIE_RCLK_100M_N (out), AD31 PCIE_RCLK_100M_P (out), AE6 GPIO4_D0/PCIE_CLKREQNB (in), AE30 PCIE_TX0_P (out), AE31 PCIE_TX0_N (out), AF27 PCIE_RX3_P (in), AF28 PCIE_RX3_N (in), AF30 PCIE_RX0_P (in), AF31 PCIE_RX0_N (in), AG30 PCIE_TX1_P (out), AG31 PCIE_TX1_N (out), AH30 PCIE_RX1_P (in), AH31 PCIE_RX1_N (in), W24 PCIE_AVDD_0V9 (power), Y24 PCIE_AVDD_1V8 (power)
part I pins: AA1 DDR0_DQ3 (io), AA2 DDR0_DQ2 (io), AA4 DDR0_DQS0N (io), AB1 DDR0_DQ1 (io), AB2 DDR0_DQ0 (io), AC1 DDR0_DQ14 (io), AC2 DDR0_DQ15 (io), AC4 DDR0_DQS1P (io), AC5 DDR0_DM1 (out), AD1 DDR0_DQ13 (io), AD2 DDR0_DQ11 (io), AD4 DDR0_DQS1N (io), AE1 DDR0_DQ12 (io), AE2 DDR0_DQ9 (io), AF1 DDR0_DQ10 (io), AF2 DDR0_DQ8 (io), B1 DDR0_CSN1 (out), C1 DDR0_A12 (out), C2 DDR0_CSN3 (out), C3 DDR0_BA0 (out), D1 DDR0_A10 (out), D2 DDR0_A13 (out), D3 DDR0_A14 (out), E1 DDR0_CKE0 (out), E3 DDR0_A11 (out), F1 DDR0_A1 (out), F2 DDR0_A0 (out), F3 DDR0_RASN (out), F4 DDR0_BA1 (out), F5 DDR0_CKE1 (out), G1 DDR0_A2 (out), G2 DDR0_A3 (out), G6 DDR0_WEN (out), H1 DDR0_A5 (out), H2 DDR0_A4 (out), H4 DDR0_CLK0P (out), H5 DDR0_CLK1P (out), H6 DDR0_CASN (out), H7 DDR0_A15 (out), J1 DDR0_A6 (out), J2 DDR0_A7 (out), J4 DDR0_CLK0N (out), J5 DDR0_CLK1N (out), K1 DDR0_A9 (out), K2 DDR0_A8 (out), L1 DDR0_DQ29 (io), L2 DDR0_DQ31 (io), L4 DDR0_ODT0 (out), L5 DDR0_ODT1 (out), L7 DDR0_RESETN (out), L9 DDR0_VDD_1 (power), L10 DDR0_VDD_2 (power), M1 DDR0_DQ27 (io), M2 DDR0_DQ30 (io), M4 DDR0_BA2 (out), M5 DDR0_CSN2 (out), M6 DDR0_CSN0 (out), M7 DDR0_CLK_VDD (power), M9 DDR0_VDD_3 (power), N1 DDR0_DQ26 (io), N2 DDR0_DQ28 (io), N9 DDR0_VDD_4 (power), N10 DDR0_VDD_5 (power), P1 DDR0_DQ24 (io), P2 DDR0_DQ25 (io), P4 DDR0_DQS3P (io), P5 DDR0_DM3 (out), P9 DDR0_VDD_6 (power), R1 DDR0_DQ23 (io), R2 DDR0_DQ22 (io), R4 DDR0_DQS3N (io), R7 DDR0_PZQ (io), R8 DDR0PLL_AVDD_0V9 (power), R9 DDR0_VDD_7 (power), R10 DDR0_VDD_8 (power), T1 DDR0_DQ20 (io), T2 DDR0_DQ21 (io), T9 DDR0_VDD_9 (power), U1 DDR0_DQ18 (io), U2 DDR0_DQ19 (io), U4 DDR0_DQS2P (io), U5 DDR0_DM2 (out), U6 DDR0_ATB0 (out), U7 DDR0_ATB1 (out), U9 DDR0_VDD_10 (power), U10 DDR0_VDD_11 (power), V1 DDR0_DQ16 (io), V2 DDR0_DQ17 (io), V4 DDR0_DQS2N (io), V6 DDR0_PLL_TESTOUT_P (out), V7 DDR0_PLL_TESTOUT_N (out), V9 DDR0_VDD_12 (power), W1 DDR0_DQ6 (io), W2 DDR0_DQ7 (io), Y1 DDR0_DQ5 (io), Y2 DDR0_DQ4 (io), Y4 DDR0_DQS0P (io), Y5 DDR0_DM0 (out)
part J pins: A2 DDR1_CSN1 (out), A3 DDR1_A12 (out), A4 DDR1_A10 (out), A5 DDR1_CKE0 (out), A6 DDR1_A9 (out), A7 DDR1_A7 (out), A8 DDR1_A5 (out), A9 DDR1_A3 (out), A10 DDR1_A1 (out), A11 DDR1_DQ10 (io), A12 DDR1_DQ12 (io), A13 DDR1_DQ13 (io), A14 DDR1_DQ14 (io), A15 DDR1_DQ1 (io), A16 DDR1_DQ3 (io), A17 DDR1_DQ5 (io), A18 DDR1_DQ6 (io), A19 DDR1_DQ16 (io), A20 DDR1_DQ18 (io), A21 DDR1_DQ20 (io), A22 DDR1_DQ23 (io), A23 DDR1_DQ24 (io), A24 DDR1_DQ26 (io), A25 DDR1_DQ27 (io), A26 DDR1_DQ29 (io), B2 DDR1_BA0 (out), B3 DDR1_CSN3 (out), B4 DDR1_A13 (out), B6 DDR1_A8 (out), B7 DDR1_A6 (out), B8 DDR1_A4 (out), B9 DDR1_A2 (out), B10 DDR1_A0 (out), B11 DDR1_DQ8 (io), B12 DDR1_DQ9 (io), B13 DDR1_DQ11 (io), B14 DDR1_DQ15 (io), B15 DDR1_DQ0 (io), B16 DDR1_DQ2 (io), B17 DDR1_DQ4 (io), B18 DDR1_DQ7 (io), B19 DDR1_DQ17 (io), B20 DDR1_DQ19 (io), B21 DDR1_DQ21 (io), B22 DDR1_DQ22 (io), B23 DDR1_DQ25 (io), B24 DDR1_DQ28 (io), B25 DDR1_DQ30 (io), B26 DDR1_DQ31 (io), C4 DDR1_A14 (out), C5 DDR1_A11 (out), C6 DDR1_RASN (out), D6 DDR1_BA1 (out), D8 DDR1_CLK0N (out), D9 DDR1_CLK0P (out), D11 DDR1_ODT0 (out), D12 DDR1_BA2 (out), D14 DDR1_DQS1N (io), D15 DDR1_DQS1P (io), D17 DDR1_DQS0N (io), D18 DDR1_DQS0P (io), D20 DDR1_DQS2N (io), D21 DDR1_DQS2P (io), D23 DDR1_DQS3N (io), D24 DDR1_DQS3P (io), E6 DDR1_CKE1 (out), E8 DDR1_CLK1N (out), E9 DDR1_CLK1P (out), E11 DDR1_ODT1 (out), E14 DDR1_DM1 (out), E17 DDR1_DM0 (out), E20 DDR1_DM2 (out), E23 DDR1_DM3 (out), F7 DDR1_WEN (out), F9 DDR1_CASN (out), F11 DDR1_CSN2 (out), F12 DDR1_CSN0 (out), F14 DDR1_PLL_TESTOUT_P (out), F17 DDR1_ATB0 (out), G8 DDR1_A15 (out), G11 DDR1_RESETN (out), G12 DDR1_CLK_VDD (power), G14 DDR1_PLL_TESTOUT_N (out), G15 DDR1_PZQ (io), G17 DDR1_ATB1 (out), H14 DDR1PLL_AVDD_0V9 (power), J11 DDR1_VDD_1 (power), J12 DDR1_VDD_2 (power), J13 DDR1_VDD_3 (power), J14 DDR1_VDD_4 (power), J15 DDR1_VDD_5 (power), J16 DDR1_VDD_6 (power), J17 DDR1_VDD_7 (power), J18 DDR1_VDD_8 (power), K11 DDR1_VDD_9 (power), K13 DDR1_VDD_10 (power), K15 DDR1_VDD_11 (power), K17 DDR1_VDD_12 (power)
part K pins: AA19 NC (io), AA20 NC (io), AA22 NC (io), AA24 DFTJTAG_TMS (io), AB20 NC (io), AB22 NC (io), AB24 DFTJTAG_TRSTN (io), AC12 NC (io), AC14 NC (io), AD11 NC (io), AD12 NC (io), AD14 NC (io), AD15 NC (io), AD23 EFUSE, AD24 USIC_AVDD_1V2 (power), AD25 USIC_AVDD_0V9 (power), AG4 GPIO4_D6 (io), AH3 GPIO4_D2 (io), AH5 GPIO4_D4 (io), AJ3 GPIO4_D5 (io), AJ30 USIC_STROBE (io), AJ31 USIC_DATA (io), AK1 GPIO4_C5/SPDIF_TX (out), AK3 GPIO4_D3 (io), AK4 GPIO4_D1/DP_HOTPLUG (io), L25 GPIO1_C6/TCPD_VBUS_SOURCE0 (io), L26 GPIO1_D0/TCPD_VBUS_SOURCE2 (io), M24 GPIO1_B5 (io), M31 GPIO1_C7/TCPD_VBUS_SOURCE1 (io), N24 GPIO0_A2/WIFI_26MHZ (out), P24 GPIO0_B5/TCPD_VBUS_FDIS/TCPD_VBUS_SOURCE3 (io), R29 GPIO0_A1/DDRIO_PWROFF/TCPD_CCDB_EN (io), R30 GPIO1_A5/AP_PWROFF (out), T30 NPOR (in), U30 GPIO0_B3 (io), U31 GPIO0_A0/TEST_CLKOUT0/CLK32K_IN (in), V26 GPIO0_B4/TCPD_VBUS_BDIS (io), V30 GPIO0_B1/PMUIO2_VOLSEL (io), W31 GPIO0_B2 (io), Y30 XOUT_OSC (out), Y31 XIN_OSC (in)
part L pins: T23 SDMMC0_VDD (power), U26 SDMMC0_VDDPST (out), U27 GPIO4_B3/SDMMC0_D3/APJTAG_TMS (io), U28 GPIO0_B0/SDMMC0_WRPT/TEST_CLKOUT2 (in), V25 GPIO4_B5/SDMMC0_CMD/MCUJTAG_TMS (io), V28 GPIO0_A7/SDMMC0_DET (in), V29 GPIO4_B4/SDMMC0_CLKOUT/MUCJTAG_TCK (out), Y26 GPIO4_B1/SDMMC0_D1/UART2A_TX (io), Y27 GPIO4_B0/SDMMC0_D0/UART2A_RX (io), Y28 GPIO4_B2/SDMMC0_D2/APJTAG_TCK (io)
part M pins: AA25 GPIO0_A4/SDIO0_INTN (io), AD8 GPIO2_C4/SDIO0_D0/SPI5_RXD (io), AD9 GPIO2_D3/SDIO0_PWREN (io), AE8 GPIO2_C7/SDIO0_D3/SPI5_CSN0 (io), AF7 GPIO2_D1/SDIO0_CLKOUT/TEST_CLKOUT1 (io), AF8 GPIO2_D4/SDIO0_BKPWR (io), AG7 GPIO2_C6/SDIO0_D2/SPI5_CLK (io), AH6 GPIO2_D0/SDIO0_CMD (io), AK5 GPIO2_C5/SDIO0_D1/SPI5_TXD (io), AL4 GPIO2_D2/SDIO0_DETN/PCIE_CLKREQN (io), V31 GPIO0_A3/SDIO0_WRPT (io)
part N pins: J25 EMMC_D3 (io), J26 EMMC_D4 (io), J27 EMMC_D5 (io), J28 EMMC_D0 (io), J29 EMMC_D1 (io), J30 EMMC_D2 (io), J31 EMMC_CMD (io), K24 EMMC_VDD_1V8 (power), K30 EMMC_D7 (io), K31 EMMC_STRB (io), L24 EMMC_COREDLL_0V9 (power), L28 EMMC_CLK (out), L29 EMMC_CALIO (io), L30 EMMC_TP (out), L31 EMMC_D6 (io), V27 GPIO0_A5/EMMC_PWRON (io)
part O pins: AA30 USB1_DP (io), AA31 USB1_DN (io), AB30 USB0_DP (io), AB31 USB0_DN (io), AC30 USB1_RBIAS (in), AC31 USB0_RBIAS (in), U24 USB_AVDD_1V8 (power), V24 USB_AVDD_0V9 (power), Y25 USB_AVDD_3V3 (power)
part P pins: AA18 TYPEC0_AVDD_1V8 (power), AA21 TYPEC1_AVDD_1V8 (power), AB18 TYPEC0_AVDD_3V3 (power), AB21 TYPEC1_AVDD_3V3 (power), AC19 TYPEC1_U3VBUSDET (in), AD18 TYPEC0_RCLKM (out), AD19 TYPEC0_U3VBUSDET (in), AD20 TYPEC1_RCLKM (out), AE18 TYPEC0_RCLKP (out), AE20 TYPEC1_RCLKP (out), AE21 TYPEC1_REXT (in), AE24 TYPEC1_AUXP_PD_PU (io), AE26 TYPEC1_ID (in), AF21 TYPEC1_CC2 (io), AF25 TYPEC1_AUXM_PU_PD (io), AG17 TYPEC0_AUXM_PU_PD (io), AG18 TYPEC0_REXT (in), AG20 TYPEC0_REXT_CC (in), AG21 TYPEC1_REXT_CC (in), AG23 TYPEC0_DP (io), AG24 TYPEC1_DP (io), AH17 TYPEC0_AUXP_PD_PU (io), AH18 TYPEC0_CC1 (io), AH20 TYPEC0_CC2 (io), AH21 TYPEC1_CC1 (io), AH23 TYPEC0_DN (io), AH24 TYPEC1_DN (io), AK20 TYPEC0_AUXP (io), AK21 TYPEC0_RX1P (io), AK22 TYPEC0_TX1M (out), AK23 TYPEC0_RX2P (io), AK24 TYPEC0_TX2M (out), AK25 TYPEC1_RX1P (io), AK26 TYPEC1_TX1M (out), AK27 TYPEC1_RX2P (io), AK28 TYPEC1_TX2M (out), AK29 TYPEC1_AUXP (io), AK30 TYPEC0_U2VBUSDET (io), AK31 TYPEC1_U2VBUSDET (io), AL20 TYPEC0_AUXM (io), AL21 TYPEC0_RX1M (io), AL22 TYPEC0_TX1P (out), AL23 TYPEC0_RX2M (io), AL24 TYPEC0_TX2P (out), AL25 TYPEC1_RX1M (io), AL26 TYPEC1_TX1P (out), AL27 TYPEC1_RX2M (io), AL28 TYPEC1_TX2P (out), AL29 TYPEC1_AUXM (io), AL30 TYPEC0_ID (in), Y18 TYPEC0_AVDD_0V9_2 (power), Y19 TYPEC0_AVDD_0V9_1 (power), Y21 TYPEC1_AVDD_0V9_1 (power), Y22 TYPEC1_AVDD_0V9_2 (power)
part Q pins: A28 EDP_AUXN (io), A29 EDP_TX0N (out), A30 EDP_TX1N (out), AD7 GPIO4_C7/HDMI_CECINOUT/EDP_HOTPLUG (io), B28 EDP_AUXP (io), B29 EDP_TX0P (out), B30 EDP_TX1P (out), C30 EDP_TX2P (out), C31 EDP_TX2N (out), D30 EDP_TX3P (out), D31 EDP_TX3N (out), G20 EDP_DC_TP (io), G21 EDP_REXT (in), H20 EDP_AVDD_0V9 (power), H21 EDP_CLK24M_IN (in), J19 EDP_AVDD_1V8_1 (power), J20 EDP_AVDD_1V8_2 (power)
part R pins: AA16 HDMI_AVDD_0V9_1 (power), AA17 HDMI_AVDD_0V9_2 (power), AD16 HDMI_AVDD_1V8 (power), AE15 HDMI_HPD (io), AF15 HDMI_REXT (io), AK16 HDMI_TCP (io), AK17 HDMI_TX0P (out), AK18 HDMI_TX1P (out), AK19 HDMI_TX2P (out), AL16 HDMI_TCN (io), AL17 HDMI_TX0N (out), AL18 HDMI_TX1N (out), AL19 HDMI_TX2N (out)
part S pins: AB12 MIPI_TX0_AVDD_1V8 (power), AF12 MIPI_TX0_REXT (io), AG9 MIPI_TX0_D3P (io), AG11 MIPI_TX0_D2P (io), AG12 MIPI_TX0_CLKP (io), AG14 MIPI_TX0_D1P (io), AG15 MIPI_TX0_D0P (io), AH9 MIPI_TX0_D3N (io), AH11 MIPI_TX0_D2N (io), AH12 MIPI_TX0_CLKN (io), AH14 MIPI_TX0_D1N (io), AH15 MIPI_TX0_D0N (io)
part T pins: AB14 MIPI_RX0_AVDD_1V8 (power), AF14 MIPI_RX0_REXT (io), AK11 MIPI_RX0_D3P (io), AK12 MIPI_RX0_D2P (io), AK13 MIPI_RX0_CLKP (io), AK14 MIPI_RX0_D1P (io), AK15 MIPI_RX0_D0P (io), AL11 MIPI_RX0_D3N (io), AL12 MIPI_RX0_D2N (io), AL13 MIPI_RX0_CLKN (io), AL14 MIPI_RX0_D1N (io), AL15 MIPI_RX0_D0N (io)
part U pins: AC10 MIPI_TX1/RX1_AVDD_1V8 (power), AF11 MIPI_TX1/RX1_REXT (io), AK6 MIPI_TX1/RX1_D0P (io), AK7 MIPI_TX1/RX1_D1P (io), AK8 MIPI_TX1/RX1_CLKP (io), AK9 MIPI_TX1/RX1_D2P (io), AK10 MIPI_TX1/RX1_D3P (io), AL6 MIPI_TX1/RX1_D0N (io), AL7 MIPI_TX1/RX1_D1N (io), AL8 MIPI_TX1/RX1_CLKN (io), AL9 MIPI_TX1/RX1_D2N (io), AL10 MIPI_TX1/RX1_D3N (io)
part V pins: R25 GPIO1_A0/ISP0_SHUTTER_EN/ISP1_SHUTTER_EN/TCPD_VBUS_SINK_EN (io), R26 GPIO1_A2/ISP0_FLASHTRIGIN/ISP1_FLASHTRIGIN/TCPD_CC1_VCONN_EN (io), R27 GPIO1_A3/ISP0_FLASHTRIGOUT/ISP1_FLASHTRIGOUT (io), R28 GPIO1_A4/ISP0_PRELIGHT_TRIG/ISP1_PRELIGHT_TRIG (io), T31 GPIO1_A1/ISP0_SHUTTER_TRIG/ISP1_SHUTTER_TRIG/TCPD_CC0_VCONN_EN (io)
part W pins: AC24 ADC_AVDD (power), AG25 ADC_IN2 (in), AG26 ADC_IN0 (in), AG28 ADC_IN3 (in), AH26 ADC_IN1 (in), AH27 ADC_IN4 (in), P26 GPIO1_A6/TSADC_INT (io)
part X pins: C27 GPIO3_B1/MAC_RXDV (io), D26 GPIO3_A4/MAC_TXD0/SPI0_RXD (io), D27 GPIO3_C0/MAC_COL/UART3_CTSN/SPDIF_TX (io), E25 GPIO3_A3/MAC_RXD3/SPI4_CSN0 (io), E26 GPIO3_A6/MAC_RXD0/SPI0_CLK (io), E28 GPIO3_C1/MAC_TXCLK/UART3_RTSN (io), E29 GPIO3_B0/MAC_MDC/SPI0_CSN1 (io), E30 GPIO3_A2/MAC_RXD2/SPI4_CLK (io), F23 GPIO3_B2/MAC_RXER/I2C5_SDA (io), F24 GPIO3_A0/MAC_TXD2/SPI4_RXD (io), F25 GPIO3_B6/MAC_RXCLK/UART3_RX (io), F27 GPIO3_A7/MAC_RXD1/SPI0_CSN0 (io), G23 GPIO3_A5/MAC_TXD1/SPI0_TXD (io), G24 GPIO3_B3/MAC_CLK/I2C5_SCL (io), G26 GPIO3_B5/MAC_MDIO/UART1_TX (io), H22 GPIO3_B4/MAC_TXEN/UART1_RX (io), H23 GPIO3_A1/MAC_TXD3/SPI4_TXD (io)
part Y pins: AE9 GPIO2_C0/UART0_RX (io), AG6 GPIO4_C0/I2C3_SDA/UART2B_RX (io), AG8 GPIO2_C2/UART0_CTSN (io), AH8 GPIO2_C1/UART0_TX (io), AJ4 GPIO4_C4/UART2C_TX (io), AK2 GPIO4_C3/UART2C_RX (io), AL2 GPIO4_C1/I2C3_SCL/UART2B_TX (io), AL5 GPIO2_C3/UART0_RTSN (io)
part Z pins: AG1 GPIO4_A1/I2C1_SDA (io), M29 GPIO1_C4/I2C8_SDA (io), M30 GPIO1_C5/I2C8_SCL (io), P30 GPIO1_B4/I2C4_SCL (io), P31 GPIO1_B3/I2C4_SDA (io), Y6 GPIO4_A2/I2C1_SCL (io)
part 27 pins: AF5 GPIO4_C2/PWM0/VOP0_PWM/VOP1_PWM (io), AL3 GPIO4_C6/PWM1 (io), M25 GPIO1_B6/PWM3B_IR (io), M28 GPIO1_C3/PWM2 (io), P25 GPIO0_A6/PWM3A_IR (io)
part 28 pins: B27 GPIO3_B7/MAC_CRS/UART3_TX/CIF_CLKOUTB (io), F28 GPIO2_A3/VOP_D3/CIF_D3 (io), F29 GPIO2_A5/VOP_D5/CIF_D5 (io), F30 GPIO2_B1/SPI2_RXD/CIF_HREF/I2C6_SDA (io), F31 GPIO2_B4/SPI2_CSN0 (io), G30 GPIO2_A7/VOP_D7/CIF_D7/I2C7_SDA (io), G31 GPIO2_A0/VOP_D0/CIF_D0/I2C2_SDA (io), H24 GPIO2_B2/SPI2_TXD/CIF_CLKIN/I2C6_SCL (io), H25 GPIO2_A1/VOP_D1/CIF_D1/I2C2_SCL (io), H27 GPIO2_A6/VOP_D6/CIF_D6 (io), H28 GPIO2_B0/VOP_CLK/CIF_VSYNC/I2C7_SCL (io), H29 GPIO2_A4/VOP_D4/CIF_D4 (io), H30 GPIO2_A2/VOP_D2/CIF_D2 (io), H31 GPIO2_B3/SPI2_CLK/VOP_DEN/CIF_CLKOUTA (io)
part 29 pins: AA8 APIO5_VDDPST (power), AB8 APIO3_VDD_1V8 (power), AC8 APIO4_VDDPST (power), AC9 APIO4_VDD (power), J22 APIO1_VDDPST (power), J23 APIO1_VDD (power), J24 APIO2_VDDPST (power), K23 APIO2_VDD (power), N23 PMUIO2_VDDPST (power), P18 PLL_AVDD_1V8 (power), P23 PMUIO2_VDD (power), R17 PLL_AVDD_0V9 (power), R24 PMUIO1_VDD_1V8 (power), T24 PMU_VDD_0V9 (power), U25 PMU_VDD_1V8 (power), Y8 APIO5_VDD (power)
part 30 pins: P27 GPIO1_A7/SPI1_RXD/UART4_RX (io), P28 GPIO1_B1/SPI1_CLK/PMCU_JTAG_TCK (io), P29 GPIO1_B2/SPI1_CSN0/PMCU_JTAG_TMS (io), R31 GPIO1_B0/SPI1_TXD/UART4_TX (io)
part 31 pins: M26 GPIO1_B7/SPI3_RXD/I2C0_SDA (out), M27 GPIO1_C1/SPI3_CLK (io), N30 GPIO1_C0/SPI3_TXD/I2C0_SCL (in), N31 GPIO1_C2/SPI3_CSN0 (io)
part 32 pins: AA6 GPIO3_D5/I2S0_SDI2SDO2 (io), AA7 GPIO4_A4/I2S1_LRCK_RX (io), AC6 GPIO4_A7/I2S1_SDO0 (io), AC7 GPIO4_A0/I2S_CLK (io), AD6 GPIO4_A6/I2S1_SDI0 (io), AE5 GPIO3_D4/I2S0_SDI1SDO3 (io), AF3 GPIO4_A3/I2S1_SCLK (io), AF4 GPIO3_D1/I2S0_LRCK_RX (io), AG3 GPIO3_D0/I2S0_SCLK (io), AH1 GPIO3_D7/I2S0_SDO0 (io), AH2 GPIO3_D6/I2S0_SDI3SDO1 (io), AJ1 GPIO4_A5/I2S1_LRCK_TX (io), AJ2 GPIO3_D2/I2S0_LRCK_TX (io), Y7 GPIO3_D3/I2S0_SDI0 (io)
part A text: Internal Logic Ground and Digital IO Groung
part B text: Analog Groung
part C text: Internal Center Logic Power
part D text: Internal GPU Power
part E text: Internal BIG CPU A72 Power
part F text: Internal Logic Power
part G text: Internal LITTLE CPU A53 Power
part H text: PCIe differential data I/O signals
part I text: DDRC0
part J text: DDRC1
part K text: MISC
part L text: SDMMC
part M text: SDIO
part N text: eMMC
part O text: USB 2.0
part P text: USB 3.0
part Q text: eDP
part R text: HDMI
part S text: MIPI DSI
part T text: MIPI CSI
part U text: MIPI CSI/DSI
part V text: ISP
part W text: SAR-ADC
part X text: GMAC
part Y text: UART
part Z text: I2C
part 27 text: PWM
part 28 text: Camera IF
part 29 text: Power
part 30 text: SPI1
part 31 text: SPI3/I2C0
part 32 text: I2S

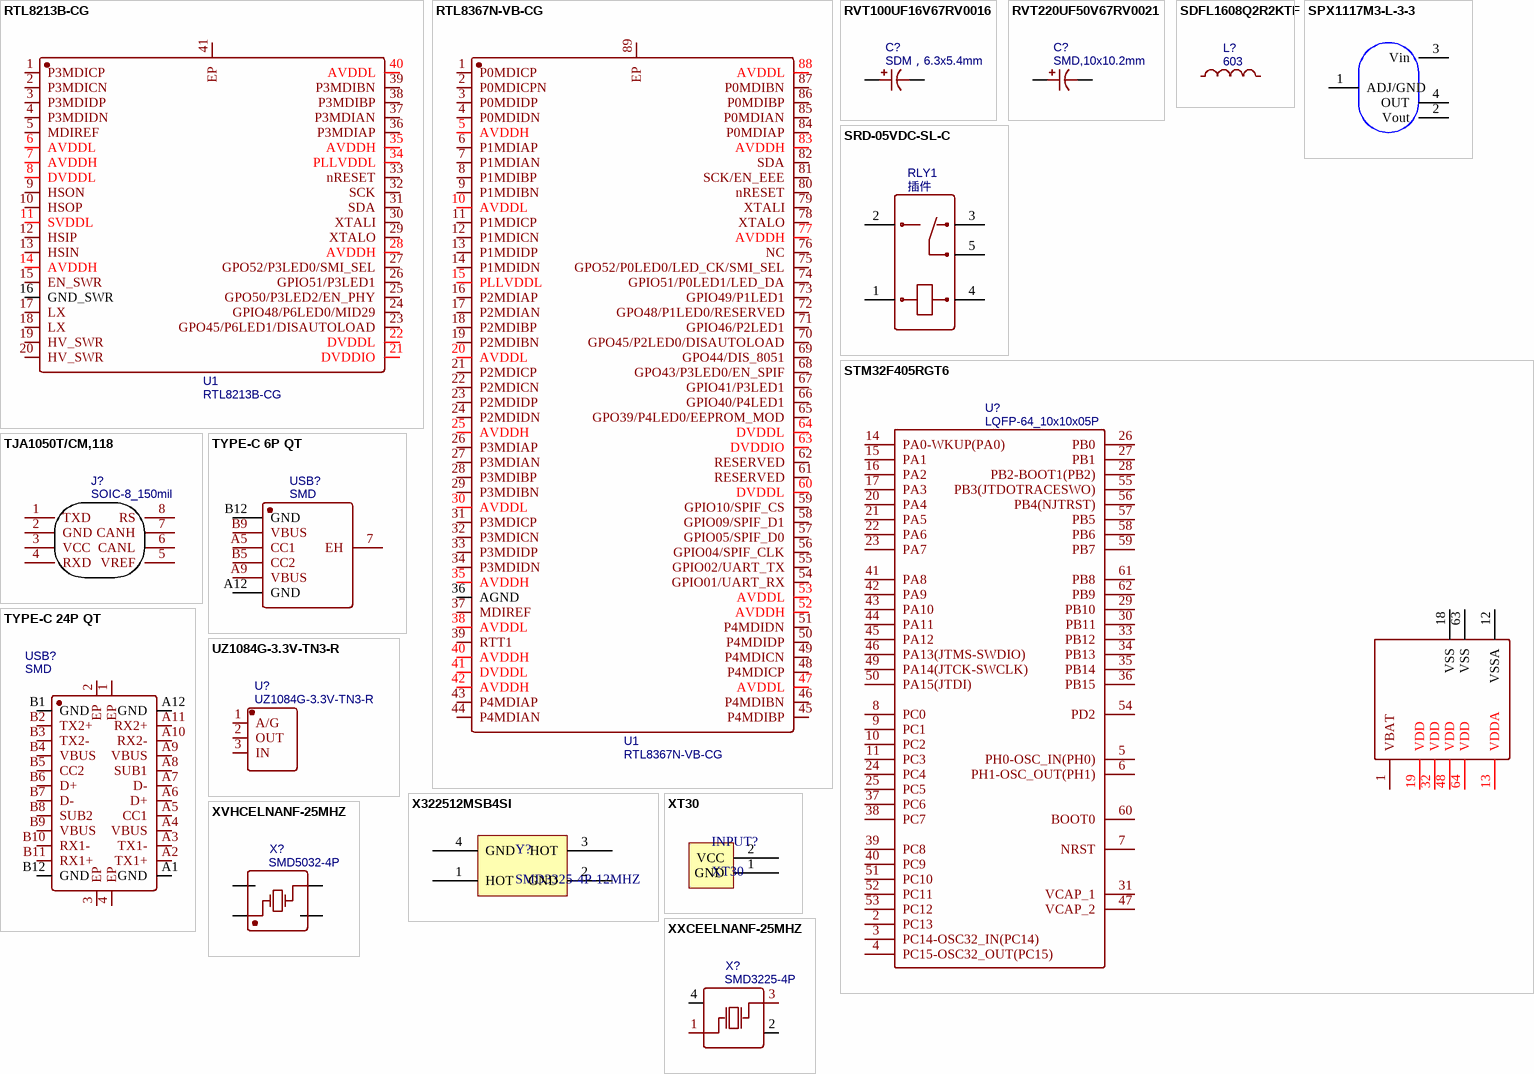
[diagram p5: symbols RTL8213B-CG to XXCEELNANF-25MHZ]

## RTL8213B-CG
designator U1
以太网转换芯片（Network）; BOM_Manufacturer: REALTEK(瑞昱); Contributor: LCSC; BOM_Supplier: LCSC; BOM_Supplier Part: C2766076; BOM_Manufacturer Part: RTL8213B-CG; BOM_JLCPCB Part Class: Extended Part; spicePre: U; spiceSymbolName: RTL8213B-CG
footprint QFN-40_L5.0-W5.0-P0.40-BL-EP3.7
pins: 1 P3MDICP, 2 P3MDICN, 3 P3MDIDP, 4 P3MDIDN, 5 MDIREF, 6 AVDDL, 7 AVDDH, 8 DVDDL, 9 HSON, 10 HSOP, 11 SVDDL, 12 HSIP, 13 HSIN, 14 AVDDH, 15 EN_SWR, 16 GND_SWR, 17 LX, 18 LX, 19 HV_SWR, 20 HV_SWR, 21 DVDDIO, 22 DVDDL, 23 GPO45/P6LED1/DISAUTOLOAD, 24 GPIO48/P6LED0/MID29, 25 GPO50/P3LED2/EN_PHY, 26 GPIO51/P3LED1, 27 GPO52/P3LED0/SMI_SEL, 28 AVDDH, 29 XTALO, 30 XTALI, 31 SDA, 32 SCK, 33 nRESET, 34 PLLVDDL, 35 AVDDH, 36 P3MDIAP, 37 P3MDIAN, 38 P3MDIBP, 39 P3MDIBN, 40 AVDDL, 41 EP

## RTL8367N-VB-CG
designator U1
以太网芯片（Network）; BOM_Manufacturer: REALTEK(瑞昱); Contributor: LCSC; BOM_Supplier: LCSC; BOM_Supplier Part: C2760851; BOM_Manufacturer Part: RTL8367N-VB-CG; BOM_JLCPCB Part Class: Extended Part; spicePre: U; spiceSymbolName: RTL8367N-VB-CG
footprint MQFN-88_L10.0-W10.0-P0.40-BL-EP8.5
pins: 1 P0MDICP, 2 P0MDICPN, 3 P0MDIDP, 4 P0MDIDN, 5 AVDDH, 6 P1MDIAP, 7 P1MDIAN, 8 P1MDIBP, 9 P1MDIBN, 10 AVDDL, 11 P1MDICP, 12 P1MDICN, 13 P1MDIDP, 14 P1MDIDN, 15 PLLVDDL, 16 P2MDIAP, 17 P2MDIAN, 18 P2MDIBP, 19 P2MDIBN, 20 AVDDL, 21 P2MDICP, 22 P2MDICN, 23 P2MDIDP, 24 P2MDIDN, 25 AVDDH, 26 P3MDIAP, 27 P3MDIAN, 28 P3MDIBP, 29 P3MDIBN, 30 AVDDL, 31 P3MDICP, 32 P3MDICN, 33 P3MDIDP, 34 P3MDIDN, 35 AVDDH, 36 AGND, 37 MDIREF, 38 AVDDL, 39 RTT1, 40 AVDDH, 41 DVDDL, 42 AVDDH, 43 P4MDIAP, 44 P4MDIAN, 45 P4MDIBP, 46 P4MDIBN, 47 AVDDL, 48 P4MDICP, 49 P4MDICN, 50 P4MDIDP, 51 P4MDIDN, 52 AVDDH, 53 AVDDL, 54 GPIO01/UART_RX, 55 GPIO02/UART_TX, 56 GPIO04/SPIF_CLK, 57 GPIO05/SPIF_D0, 58 GPIO09/SPIF_D1, 59 GPIO10/SPIF_CS, 60 DVDDL, 61 RESERVED, 62 RESERVED, 63 DVDDIO, 64 DVDDL, 65 GPO39/P4LED0/EEPROM_MOD, 66 GPIO40/P4LED1, 67 GPIO41/P3LED1, 68 GPO43/P3LED0/EN_SPIF, 69 GPO44/DIS_8051, 70 GPO45/P2LED0/DISAUTOLOAD, 71 GPIO46/P2LED1, 72 GPO48/P1LED0/RESERVED, 73 GPIO49/P1LED1, 74 GPIO51/P0LED1/LED_DA, 75 GPO52/P0LED0/LED_CK/SMI_SEL, 76 NC, 77 AVDDH, 78 XTALO, 79 XTALI, 80 nRESET, 81 SCK/EN_EEE, 82 SDA, 83 AVDDH, 84 P0MDIAP, 85 P0MDIAN, 86 P0MDIBP, 87 P0MDIBN, 88 AVDDL, 89 EP

## RVT100UF16V67RV0016
designator C?, comment SDM，6.3x5.4mm
贴片铝电解电容器（Capacitor）; BOM_Manufacturer: KNSCHA(科尼盛); BOM_Manufacturer Part: RVT100UF16V67RV0016; nameAlias: Capacitance; Contributor: LCSC; BOM_Supplier: LCSC; BOM_Supplier Part: C2887276; BOM_JLCPCB Part Class: Extended Part; spicePre: C; spiceSymbolName: RVT100UF16V67RV0016
footprint CAP-SMD_BD6.3-L6.6-W6.6-LS7.2-FD
pins: 1, 2

## RVT220UF50V67RV0021
designator C?, comment SMD,10x10.2mm
贴片铝电解电容器（Capacitor）; BOM_Manufacturer: KNSCHA(科尼盛); BOM_Manufacturer Part: RVT220UF50V67RV0021; nameAlias: Capacitance; Contributor: LCSC; BOM_Supplier: LCSC; BOM_Supplier Part: C2887271; BOM_JLCPCB Part Class: Extended Part; spicePre: C; spiceSymbolName: RVT220UF50V67RV0021
footprint CAP-SMD_BD10.0-L10.3-W10.3-LS11.0-FD
pins: 1, 2

## SDFL1608Q2R2KTF
designator L?, comment 603
贴片电感（Inductors）; BOM_Manufacturer: Sunlord; BOM_Manufacturer Part: SDFL1608Q2R2KTF; nameAlias: Inductance; BOM_Supplier: LCSC; BOM_Supplier Part: C1033; BOM_JLCPCB Part Class: Extended Part; spicePre: L; spiceSymbolName: SDFL1608Q2R2KTF
footprint L0603
pins: 1, 2

## SPX1117M3-L-3-3
designator U?, comment SOT-223  (value not drawn)
线性稳压器（LDO）; Manufacturer: UTC(友顺); Symbol: LM317G-AA3-R; Add into BOM: yes; Output Type: 可调; Output Polarity: 正; Number of Outputs: 1; Maximum Input Voltage: 40V; Output Voltage: 1.3V~37V; Dropout Voltage: 5V@(10mA); Output Current: 1A; Device: LM317G-AA3-R; LCSC Part Name: Vin=40V Vout=1.3V~37V 1A; Supplier Part: C19651; Manufacturer Part: LM317G-AA3-R; Supplier Footprint: SOT-223; JLCPCB Part Class: Extended Part; Datasheet: https://atta.szlcsc.com/upload/public/pdf/source/20160416/1460799387250.pdf; Supplier: LCSC; Convert to PCB: yes
footprint SPX1117M3-L-3-3/TR (SOT-223-3_L6.5-W3.4-P2.30-LS7.0-BR)
pins: 1 ADJ/GND, 2 Vout, 3 Vin, 4 OUT

## SRD-05VDC-SL-C
designator RLY1, comment 插件
电磁继电器（Electromagnetic Relay）; BOM_Manufacturer: SONGLE; BOM_Manufacturer Part: SRD-05VDC-SL-C; BOM_Supplier: LCSC; BOM_Supplier Part: C35449; BOM_JLCPCB Part Class: Extended Part; spicePre: R; spiceSymbolName: SRD-05VDC-SL-C
footprint SRD-05VDC-SL-C
pins: 1, 2, 3, 4, 5

## STM32F405RGT6
designator U?, comment LQFP-64_10x10x05P
微控制单元（MCU）; BOM_Manufacturer: ST; BOM_Manufacturer Part: STM32F405RGT6; subpart_no: 1; tags: STM32; BOM_Supplier Part: C15742; BOM_Supplier: LCSC; image: http://image.lceda.cn/szlcsc/C15742.jpg; BOM_JLCPCB Part Class: Extended Part; spicePre: U; spiceSymbolName: STM32F405RGT6
footprint STM32F405RGT6 (LQFP-64_L10.0-W10.0-P0.50-LS12.0-BL)
pins: 1 VBAT, 2 PC13, 3 PC14-OSC32_IN(PC14), 4 PC15-OSC32_OUT(PC15), 5 PH0-OSC_IN(PH0), 6 PH1-OSC_OUT(PH1), 7 NRST, 8 PC0, 9 PC1, 10 PC2, 11 PC3, 12 VSSA, 13 VDDA, 14 PA0-WKUP(PA0), 15 PA1, 16 PA2, 17 PA3, 18 VSS, 19 VDD, 20 PA4, 21 PA5, 22 PA6, 23 PA7, 24 PC4, 25 PC5, 26 PB0, 27 PB1, 28 PB2-BOOT1(PB2), 29 PB10, 30 PB11, 31 VCAP_1, 32 VDD, 33 PB12, 34 PB13, 35 PB14, 36 PB15, 37 PC6, 38 PC7, 39 PC8, 40 PC9, 41 PA8, 42 PA9, 43 PA10, 44 PA11, 45 PA12, 46 PA13(JTMS-SWDIO), 47 VCAP_2, 48 VDD, 49 PA14(JTCK-SWCLK), 50 PA15(JTDI), 51 PC10, 52 PC11, 53 PC12, 54 PD2, 55 PB3(JTDOTRACESWO), 56 PB4(NJTRST), 57 PB5, 58 PB6, 59 PB7, 60 BOOT0, 61 PB8, 62 PB9, 63 VSS, 64 VDD

## TJA1050T/CM,118
designator J?, comment SOIC-8_150mil
主线控制芯片（CAN）; BOM_Manufacturer: NXP; BOM_Manufacturer Part: TJA1050T/CM,118; BOM_Supplier: LCSC; BOM_Supplier Part: C6952; BOM_JLCPCB Part Class: Basic Part; spicePre: U; spiceSymbolName: TJA1050T/CM,118
footprint SOIC-8_150MIL
pins: 1 TXD, 2 GND, 3 VCC, 4 RXD, 5 VREF, 6 CANL, 7 CANH, 8 RS

## TYPE-C 6P QT
designator USB?, comment SMD
通用通信总线接口（USB）; BOM_Manufacturer: SHOU HAN; BOM_Manufacturer Part: TYPE-C 6P; Contributor: LCSC; BOM_Supplier: LCSC; BOM_Supplier Part: C456012; BOM_JLCPCB Part Class: Extended Part; spicePre: U; spiceSymbolName: TYPE-C 6P
footprint TYPE-C-SMD_TYPE-C-6P
pins: 7 EH, A5 CC1, A9 VBUS, A12 GND, B5 CC2, B9 VBUS, B12 GND

## TYPE-C 24P QT
designator USB?, comment SMD
通用通信总线接口（USB）; BOM_Manufacturer: SHOU HAN(首韩); BOM_Manufacturer Part: TYPE-C 24P QT; Contributor: LCSC; BOM_Supplier: LCSC; BOM_Supplier Part: C2681555; BOM_JLCPCB Part Class: Extended Part; spicePre: U; spiceSymbolName: TYPE-C 24P QT
footprint USB-C-SMD_TYPE-C-24P-QT
pins: 1 EP, 2 EP, 3 EP, 4 EP, A1 GND, A2 TX1+, A3 TX1-, A4 VBUS, A5 CC1, A6 D+, A7 D-, A8 SUB1, A9 VBUS, A10 RX2-, A11 RX2+, A12 GND, B1 GND, B2 TX2+, B3 TX2-, B4 VBUS, B5 CC2, B6 D+, B7 D-, B8 SUB2, B9 VBUS, B10 RX1-, B11 RX1+, B12 GND

## UZ1084G-3.3V-TN3-R
designator U?
线性稳压器（LDO）; BOM_Manufacturer: UTC; BOM_Supplier: LCSC; BOM_Manufacturer Part: UZ1084G-3.3V-TN3-R; BOM_Supplier Part: C84897; BOM_JLCPCB Part Class: Extended Part; spicePre: U; spiceSymbolName: UZ1084G-3.3V-TN3-R
footprint TO-252-3_L6.5-W5.8-P4.58-TL
pins: 1 A/G, 2 OUT, 3 IN

## X322512MSB4SI
designator Y?, comment SMD3325-4P-12MHZ
无源晶振（Crystal）
footprint SMD-3225_4P
pins: 1 HOT, 2 GND, 3 HOT, 4 GND

## XT30
designator INPUT?
电源接口（POWER）
footprint XT30PW-M
pins: 1 GND, 2 VCC

## XVHCELNANF-25MHZ
designator X?, comment SMD5032-4P
无源晶振（Crystal）; BOM_Manufacturer: TAITIEN Elec; BOM_Manufacturer Part: XVHCELNANF-25MHZ; nameAlias: Frequency; Contributor: LCSC; BOM_Supplier: LCSC; BOM_Supplier Part: C242218; BOM_JLCPCB Part Class: Extended Part; spicePre: X; spiceSymbolName: XVHCELNANF-25MHZ
footprint CRYSTAL-SMD_L5.0-W3.2-BL
pins: 1 OE#, 2 GND, 3 OUT, 4 GND

## XXCEELNANF-25MHZ
designator X?, comment SMD3225-4P
无源晶振（Crystal）; BOM_Manufacturer: TAITIEN Elec; BOM_Manufacturer Part: XXCEELNANF-25MHZ; nameAlias: Frequency; Contributor: LCSC; BOM_Supplier: LCSC; BOM_Supplier Part: C117869; BOM_JLCPCB Part Class: Extended Part; spicePre: X; spiceSymbolName: XXCEELNANF-25MHZ
footprint OSC-SMD_4P-L3.2-W2.5-BL
pins: 1 OSC1, 2 GND, 3 OSC2, 4 GND